# Altium integrated library QuickLogic pASIC 2.IntLib: 96 symbols (part 1 of 7)
Pins are listed as number, name and electrical type; pins without a type are passive.

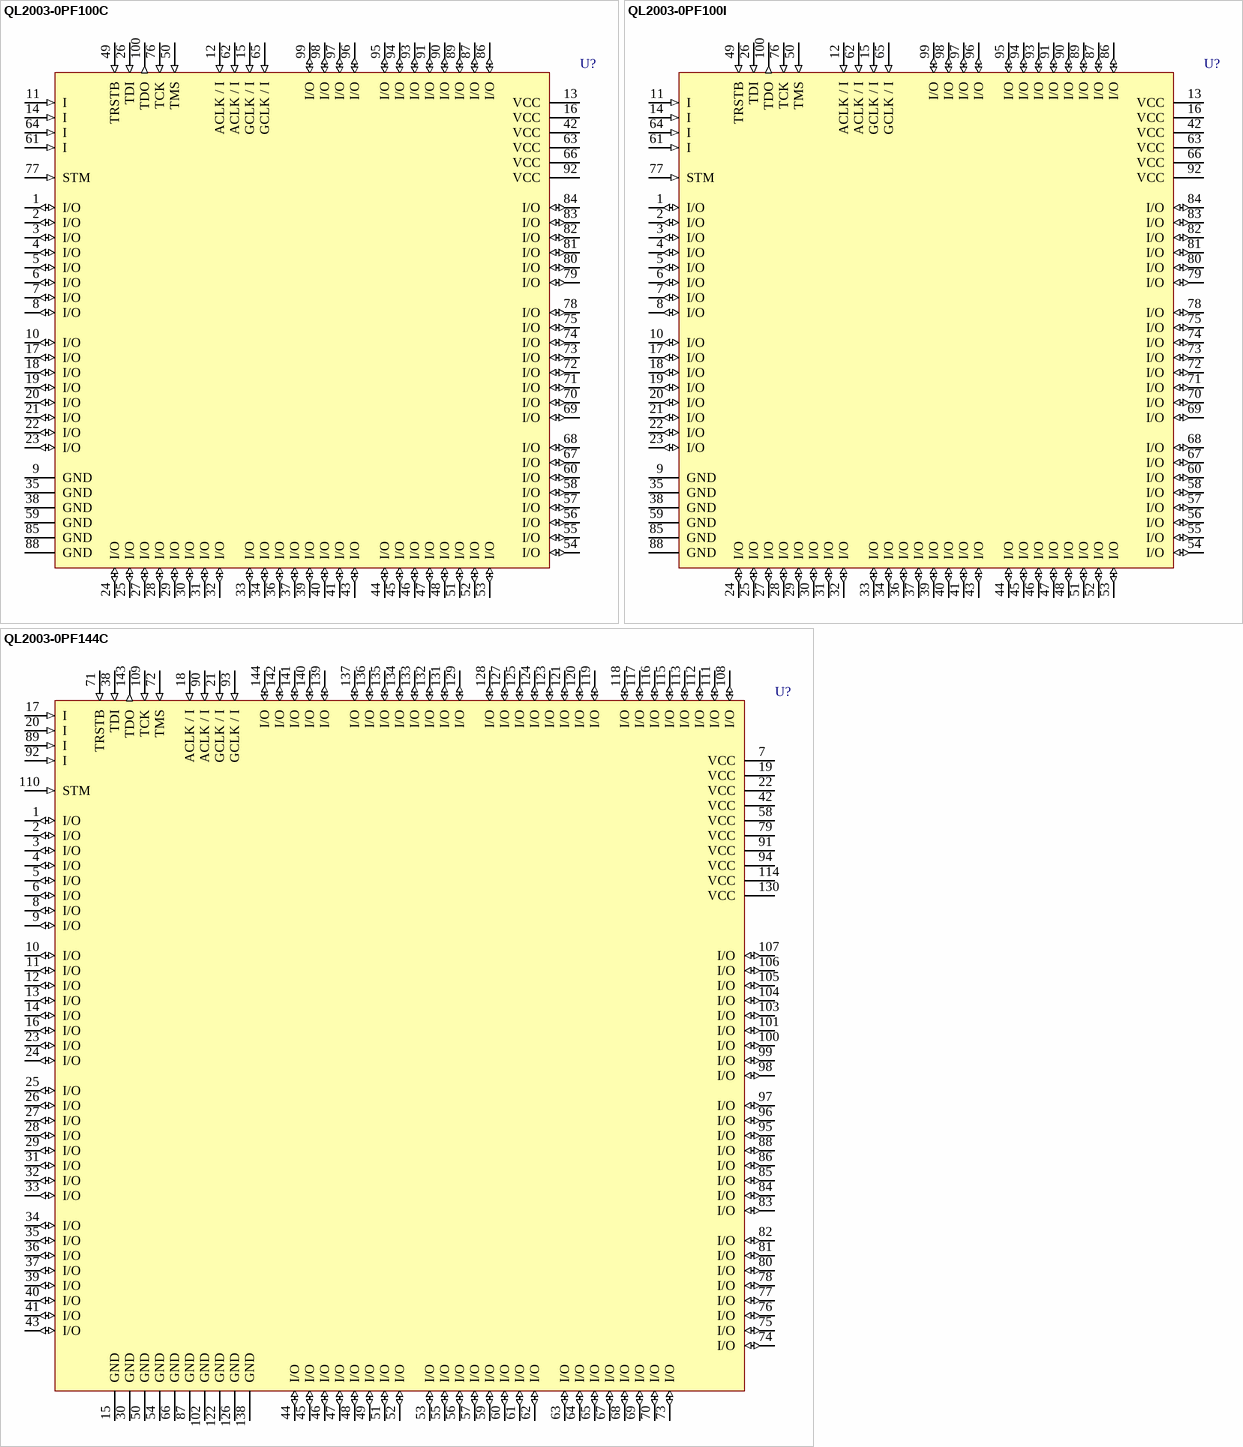
[diagram p0: symbols QL2003-0PF100C to QL2003-0PF144C]

## QL2003-0PF100C
designator U?
3.3V and 5.0V FPGA, 82 I/Os Max; Published: 21-May-2003; LatestRevisionDate: 13-Apr-2006; LatestRevisionNote: IPC-7351 Footprint Added.; DatasheetVersion: Rev. C; PackageVersion: Feb-2000; PackageReference: PF100; Publisher: Altium Limited; PackageDescription: 100-Pin Thin Quad Flat Pack 0.5 mm Pitch; Code_JEDEC: MO-136; ComponentLink1Description: Manufacturer Link; ComponentLink1URL: http://www.quicklogic.com/; ComponentLink2Description: Datasheet; ComponentLink2URL: http://www.quicklogic.com/images/QL2003_DS.pdf; ComponentLink3Description: Discontinuation Notice; ComponentLink3URL: http://www.quicklogic.com/images/EOL_Letter_General.pdf
footprint PF100_N (Thin QFP, 100-Leads, Body 14x14mm, Pitch 0.5mm, IPC Medium Density)
footprint PF100_L (Thin QFP, 100-Leads, Body 14x14mm, Pitch 0.5mm, IPC High Density)
footprint PF100_M (Thin QFP, 100-Leads, Body 14x14mm, Pitch 0.5mm, IPC Low Density)
3D model QL2003-PF100 (100-Pin Thin Quad Flat Pack 0.5 mm Pitch)
pins: 1 I/O (io), 2 I/O (io), 3 I/O (io), 4 I/O (io), 5 I/O (io), 6 I/O (io), 7 I/O (io), 8 I/O (io), 9 GND (power), 10 I/O (io), 11 I (in), 12 ACLK / I (in), 13 VCC (power), 14 I (in), 15 GCLK / I (in), 16 VCC (power), 17 I/O (io), 18 I/O (io), 19 I/O (io), 20 I/O (io), 21 I/O (io), 22 I/O (io), 23 I/O (io), 24 I/O (io), 25 I/O (io), 26 TDI (in), 27 I/O (io), 28 I/O (io), 29 I/O (io), 30 I/O (io), 31 I/O (io), 32 I/O (io), 33 I/O (io), 34 I/O (io), 35 GND (power), 36 I/O (io), 37 I/O (io), 38 GND (power), 39 I/O (io), 40 I/O (io), 41 I/O (io), 42 VCC (power), 43 I/O (io), 44 I/O (io), 45 I/O (io), 46 I/O (io), 47 I/O (io), 48 I/O (io), 49 TRSTB (in), 50 TMS (in), 51 I/O (io), 52 I/O (io), 53 I/O (io), 54 I/O (io), 55 I/O (io), 56 I/O (io), 57 I/O (io), 58 I/O (io), 59 GND (power), 60 I/O (io), 61 I (in), 62 ACLK / I (in), 63 VCC (power), 64 I (in), 65 GCLK / I (in), 66 VCC (power), 67 I/O (io), 68 I/O (io), 69 I/O (io), 70 I/O (io), 71 I/O (io), 72 I/O (io), 73 I/O (io), 74 I/O (io), 75 I/O (io), 76 TCK (in), 77 STM (in), 78 I/O (io), 79 I/O (io), 80 I/O (io), 81 I/O (io), 82 I/O (io), 83 I/O (io), 84 I/O (io), 85 GND (power), 86 I/O (io), 87 I/O (io), 88 GND (power), 89 I/O (io), 90 I/O (io), 91 I/O (io), 92 VCC (power), 93 I/O (io), 94 I/O (io), 95 I/O (io), 96 I/O (io), 97 I/O (io), 98 I/O (io), 99 I/O (io), 100 TDO (out)

## QL2003-0PF100I
designator U?
3.3V and 5.0V FPGA, 82 I/Os Max; Published: 21-May-2003; LatestRevisionDate: 13-Apr-2006; LatestRevisionNote: IPC-7351 Footprint Added.; DatasheetVersion: Rev. C; PackageVersion: Feb-2000; PackageReference: PF100; Publisher: Altium Limited; PackageDescription: 100-Pin Thin Quad Flat Pack 0.5 mm Pitch; Code_JEDEC: MO-136; ComponentLink1Description: Manufacturer Link; ComponentLink1URL: http://www.quicklogic.com/; ComponentLink2Description: Datasheet; ComponentLink2URL: http://www.quicklogic.com/images/QL2003_DS.pdf; ComponentLink3Description: Discontinuation Notice; ComponentLink3URL: http://www.quicklogic.com/images/EOL_Letter_General.pdf
footprint PF100_N (Thin QFP, 100-Leads, Body 14x14mm, Pitch 0.5mm, IPC Medium Density)
footprint PF100_L (Thin QFP, 100-Leads, Body 14x14mm, Pitch 0.5mm, IPC High Density)
footprint PF100_M (Thin QFP, 100-Leads, Body 14x14mm, Pitch 0.5mm, IPC Low Density)
3D model QL2003-PF100 (100-Pin Thin Quad Flat Pack 0.5 mm Pitch)
pins: 1 I/O (io), 2 I/O (io), 3 I/O (io), 4 I/O (io), 5 I/O (io), 6 I/O (io), 7 I/O (io), 8 I/O (io), 9 GND (power), 10 I/O (io), 11 I (in), 12 ACLK / I (in), 13 VCC (power), 14 I (in), 15 GCLK / I (in), 16 VCC (power), 17 I/O (io), 18 I/O (io), 19 I/O (io), 20 I/O (io), 21 I/O (io), 22 I/O (io), 23 I/O (io), 24 I/O (io), 25 I/O (io), 26 TDI (in), 27 I/O (io), 28 I/O (io), 29 I/O (io), 30 I/O (io), 31 I/O (io), 32 I/O (io), 33 I/O (io), 34 I/O (io), 35 GND (power), 36 I/O (io), 37 I/O (io), 38 GND (power), 39 I/O (io), 40 I/O (io), 41 I/O (io), 42 VCC (power), 43 I/O (io), 44 I/O (io), 45 I/O (io), 46 I/O (io), 47 I/O (io), 48 I/O (io), 49 TRSTB (in), 50 TMS (in), 51 I/O (io), 52 I/O (io), 53 I/O (io), 54 I/O (io), 55 I/O (io), 56 I/O (io), 57 I/O (io), 58 I/O (io), 59 GND (power), 60 I/O (io), 61 I (in), 62 ACLK / I (in), 63 VCC (power), 64 I (in), 65 GCLK / I (in), 66 VCC (power), 67 I/O (io), 68 I/O (io), 69 I/O (io), 70 I/O (io), 71 I/O (io), 72 I/O (io), 73 I/O (io), 74 I/O (io), 75 I/O (io), 76 TCK (in), 77 STM (in), 78 I/O (io), 79 I/O (io), 80 I/O (io), 81 I/O (io), 82 I/O (io), 83 I/O (io), 84 I/O (io), 85 GND (power), 86 I/O (io), 87 I/O (io), 88 GND (power), 89 I/O (io), 90 I/O (io), 91 I/O (io), 92 VCC (power), 93 I/O (io), 94 I/O (io), 95 I/O (io), 96 I/O (io), 97 I/O (io), 98 I/O (io), 99 I/O (io), 100 TDO (out)

## QL2003-0PF144C
designator U?
3.3V and 5.0V FPGA, 118 I/Os Max; Published: 21-May-2003; LatestRevisionDate: 13-Apr-2006; LatestRevisionNote: IPC-7351 Footprint Added.; DatasheetVersion: Rev. C; PackageVersion: Feb-1992; PackageReference: PF144; Publisher: Altium Limited; PackageDescription: 144-Pin Thin Plastic Quad Flat Pack 0.5 mm Pitch; ComponentLink1Description: Manufacturer Link; ComponentLink1URL: http://www.quicklogic.com/; ComponentLink2Description: Datasheet; ComponentLink2URL: http://www.quicklogic.com/images/QL2003_DS.pdf; ComponentLink3Description: Discontinuation Notice; ComponentLink3URL: http://www.quicklogic.com/images/EOL_Letter_General.pdf
footprint PF144_N (Thin QFP, 144-Leads, Body 20x20mm, Pitch 0.5mm, IPC Medium Density)
footprint PF144_L (Thin QFP, 144-Leads, Body 20x20mm, Pitch 0.5mm, IPC High Density)
footprint PF144_M (Thin QFP, 144-Leads, Body 20x20mm, Pitch 0.5mm, IPC Low Density)
3D model QL2003-PF144 (144-Pin Thin Plastic Quad Flat Pack 0.5 mm Pitch)
pins: 1 I/O (io), 2 I/O (io), 3 I/O (io), 4 I/O (io), 5 I/O (io), 6 I/O (io), 7 VCC (power), 8 I/O (io), 9 I/O (io), 10 I/O (io), 11 I/O (io), 12 I/O (io), 13 I/O (io), 14 I/O (io), 15 GND (power), 16 I/O (io), 17 I (in), 18 ACLK / I (in), 19 VCC (power), 20 I (in), 21 GCLK / I (in), 22 VCC (power), 23 I/O (io), 24 I/O (io), 25 I/O (io), 26 I/O (io), 27 I/O (io), 28 I/O (io), 29 I/O (io), 30 GND (power), 31 I/O (io), 32 I/O (io), 33 I/O (io), 34 I/O (io), 35 I/O (io), 36 I/O (io), 37 I/O (io), 38 TDI (in), 39 I/O (io), 40 I/O (io), 41 I/O (io), 42 VCC (power), 43 I/O (io), 44 I/O (io), 45 I/O (io), 46 I/O (io), 47 I/O (io), 48 I/O (io), 49 I/O (io), 50 GND (power), 51 I/O (io), 52 I/O (io), 53 I/O (io), 54 GND (power), 55 I/O (io), 56 I/O (io), 57 I/O (io), 58 VCC (power), 59 I/O (io), 60 I/O (io), 61 I/O (io), 62 I/O (io), 63 I/O (io), 64 I/O (io), 65 I/O (io), 66 GND (power), 67 I/O (io), 68 I/O (io), 69 I/O (io), 70 I/O (io), 71 TRSTB (in), 72 TMS (in), 73 I/O (io), 74 I/O (io), 75 I/O (io), 76 I/O (io), 77 I/O (io), 78 I/O (io), 79 VCC (power), 80 I/O (io), 81 I/O (io), 82 I/O (io), 83 I/O (io), 84 I/O (io), 85 I/O (io), 86 I/O (io), 87 GND (power), 88 I/O (io), 89 I (in), 90 ACLK / I (in), 91 VCC (power), 92 I (in), 93 GCLK / I (in), 94 VCC (power), 95 I/O (io), 96 I/O (io), 97 I/O (io), 98 I/O (io), 99 I/O (io), 100 I/O (io), 101 I/O (io), 102 GND (power), 103 I/O (io), 104 I/O (io), 105 I/O (io), 106 I/O (io), 107 I/O (io), 108 I/O (io), 109 TCK (in), 110 STM (in), 111 I/O (io), 112 I/O (io), 113 I/O (io), 114 VCC (power), 115 I/O (io), 116 I/O (io), 117 I/O (io), 118 I/O (io), 119 I/O (io), 120 I/O (io), 121 I/O (io), 122 GND (power), 123 I/O (io), 124 I/O (io), 125 I/O (io), 126 GND (power), 127 I/O (io), 128 I/O (io), 129 I/O (io), 130 VCC (power), 131 I/O (io), 132 I/O (io), 133 I/O (io), 134 I/O (io), 135 I/O (io), 136 I/O (io), 137 I/O (io), 138 GND (power), 139 I/O (io), 140 I/O (io), 141 I/O (io), 142 I/O (io), 143 TDO (out), 144 I/O (io)

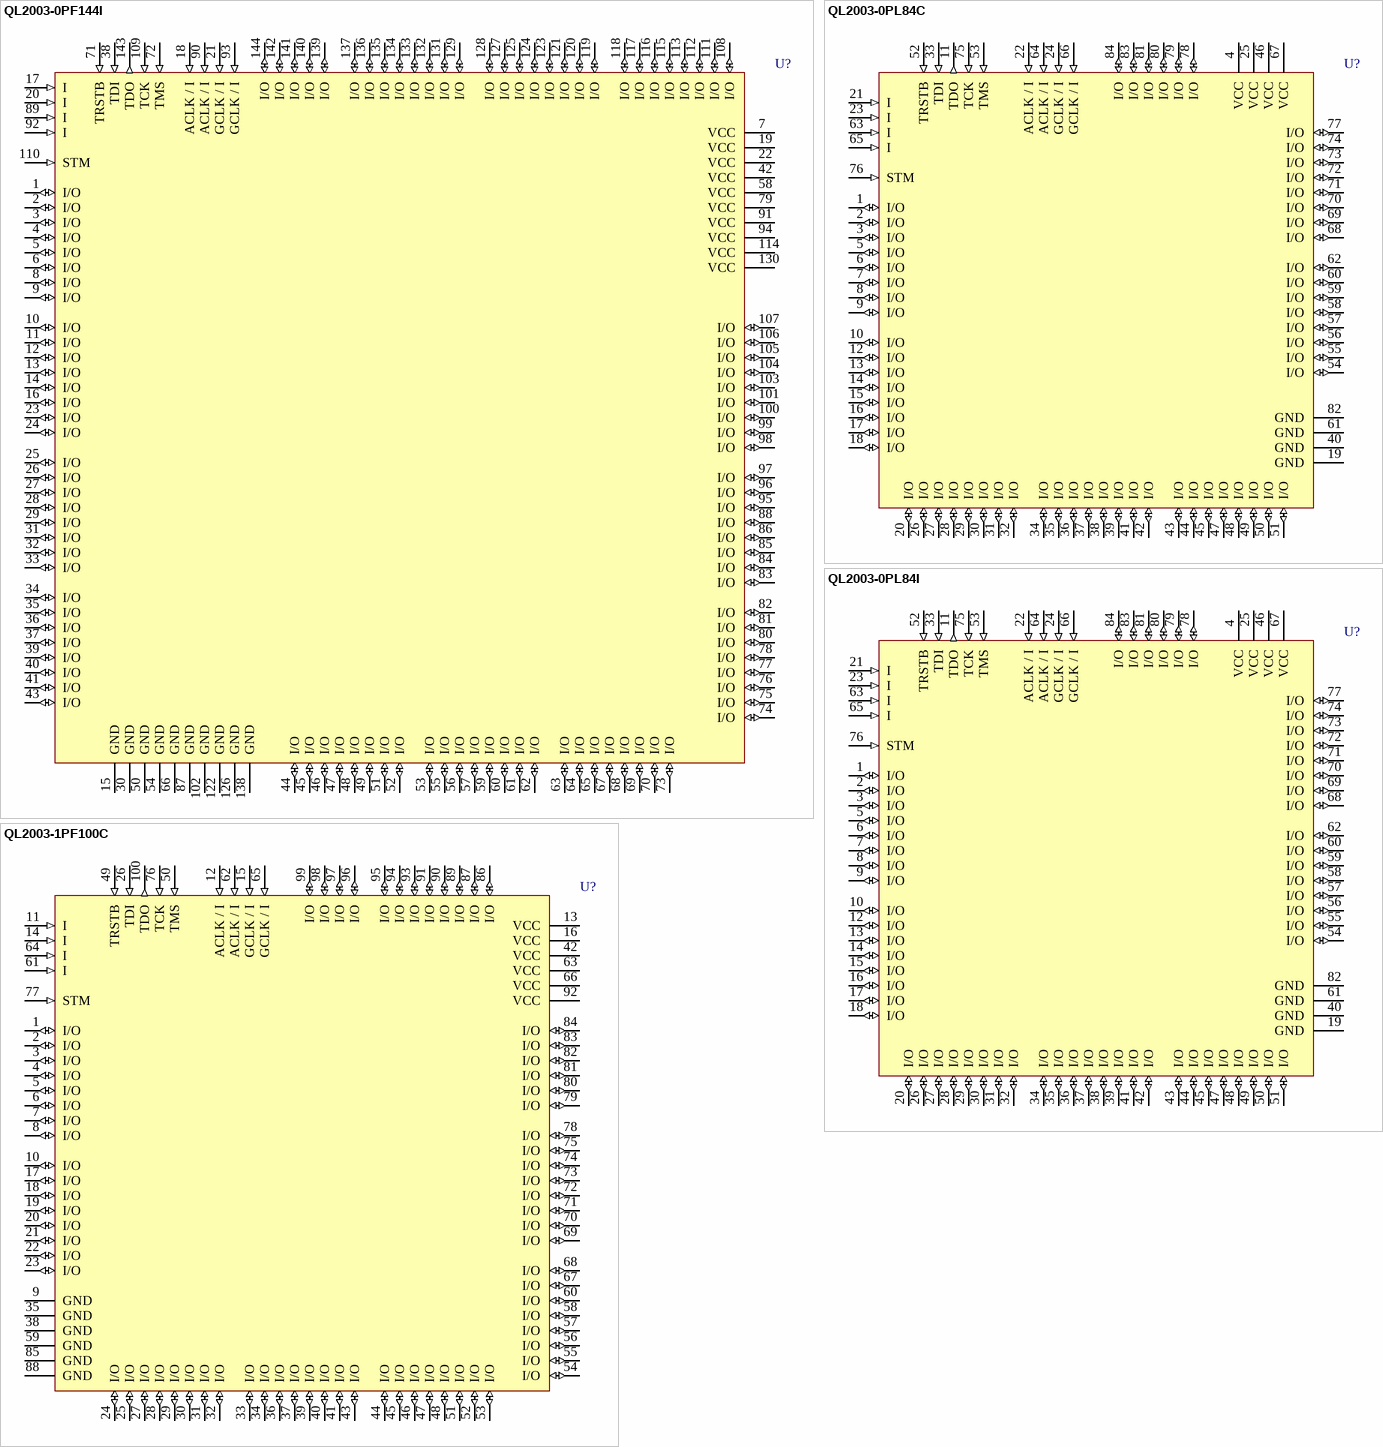
[diagram p1: symbols QL2003-0PF144I to QL2003-1PF100C]

## QL2003-0PF144I
designator U?
3.3V and 5.0V FPGA, 118 I/Os Max; Published: 21-May-2003; LatestRevisionDate: 13-Apr-2006; LatestRevisionNote: IPC-7351 Footprint Added.; DatasheetVersion: Rev. C; PackageVersion: Feb-1992; PackageReference: PF144; Publisher: Altium Limited; PackageDescription: 144-Pin Thin Plastic Quad Flat Pack 0.5 mm Pitch; ComponentLink1Description: Manufacturer Link; ComponentLink1URL: http://www.quicklogic.com/; ComponentLink2Description: Datasheet; ComponentLink2URL: http://www.quicklogic.com/images/QL2003_DS.pdf; ComponentLink3Description: Discontinuation Notice; ComponentLink3URL: http://www.quicklogic.com/images/EOL_Letter_General.pdf
footprint PF144_N (Thin QFP, 144-Leads, Body 20x20mm, Pitch 0.5mm, IPC Medium Density)
footprint PF144_L (Thin QFP, 144-Leads, Body 20x20mm, Pitch 0.5mm, IPC High Density)
footprint PF144_M (Thin QFP, 144-Leads, Body 20x20mm, Pitch 0.5mm, IPC Low Density)
3D model QL2003-PF144 (144-Pin Thin Plastic Quad Flat Pack 0.5 mm Pitch)
pins: 1 I/O (io), 2 I/O (io), 3 I/O (io), 4 I/O (io), 5 I/O (io), 6 I/O (io), 7 VCC (power), 8 I/O (io), 9 I/O (io), 10 I/O (io), 11 I/O (io), 12 I/O (io), 13 I/O (io), 14 I/O (io), 15 GND (power), 16 I/O (io), 17 I (in), 18 ACLK / I (in), 19 VCC (power), 20 I (in), 21 GCLK / I (in), 22 VCC (power), 23 I/O (io), 24 I/O (io), 25 I/O (io), 26 I/O (io), 27 I/O (io), 28 I/O (io), 29 I/O (io), 30 GND (power), 31 I/O (io), 32 I/O (io), 33 I/O (io), 34 I/O (io), 35 I/O (io), 36 I/O (io), 37 I/O (io), 38 TDI (in), 39 I/O (io), 40 I/O (io), 41 I/O (io), 42 VCC (power), 43 I/O (io), 44 I/O (io), 45 I/O (io), 46 I/O (io), 47 I/O (io), 48 I/O (io), 49 I/O (io), 50 GND (power), 51 I/O (io), 52 I/O (io), 53 I/O (io), 54 GND (power), 55 I/O (io), 56 I/O (io), 57 I/O (io), 58 VCC (power), 59 I/O (io), 60 I/O (io), 61 I/O (io), 62 I/O (io), 63 I/O (io), 64 I/O (io), 65 I/O (io), 66 GND (power), 67 I/O (io), 68 I/O (io), 69 I/O (io), 70 I/O (io), 71 TRSTB (in), 72 TMS (in), 73 I/O (io), 74 I/O (io), 75 I/O (io), 76 I/O (io), 77 I/O (io), 78 I/O (io), 79 VCC (power), 80 I/O (io), 81 I/O (io), 82 I/O (io), 83 I/O (io), 84 I/O (io), 85 I/O (io), 86 I/O (io), 87 GND (power), 88 I/O (io), 89 I (in), 90 ACLK / I (in), 91 VCC (power), 92 I (in), 93 GCLK / I (in), 94 VCC (power), 95 I/O (io), 96 I/O (io), 97 I/O (io), 98 I/O (io), 99 I/O (io), 100 I/O (io), 101 I/O (io), 102 GND (power), 103 I/O (io), 104 I/O (io), 105 I/O (io), 106 I/O (io), 107 I/O (io), 108 I/O (io), 109 TCK (in), 110 STM (in), 111 I/O (io), 112 I/O (io), 113 I/O (io), 114 VCC (power), 115 I/O (io), 116 I/O (io), 117 I/O (io), 118 I/O (io), 119 I/O (io), 120 I/O (io), 121 I/O (io), 122 GND (power), 123 I/O (io), 124 I/O (io), 125 I/O (io), 126 GND (power), 127 I/O (io), 128 I/O (io), 129 I/O (io), 130 VCC (power), 131 I/O (io), 132 I/O (io), 133 I/O (io), 134 I/O (io), 135 I/O (io), 136 I/O (io), 137 I/O (io), 138 GND (power), 139 I/O (io), 140 I/O (io), 141 I/O (io), 142 I/O (io), 143 TDO (out), 144 I/O (io)

## QL2003-0PL84C
designator U?
3.3V and 5.0V FPGA, 70 I/Os Max; Published: 21-May-2003; LatestRevisionDate: 13-Apr-2006; LatestRevisionNote: IPC-7351 Footprint Added.; DatasheetVersion: Rev. C; PackageVersion: Feb-1996; PackageReference: PL84; Publisher: Altium Limited; PackageDescription: 84-Pin Plastic Leaded Chip Carrier 1.27 mm Pitch; Code_IPC: PLCC-84; ComponentLink1Description: Manufacturer Link; ComponentLink1URL: http://www.quicklogic.com/; ComponentLink2Description: Datasheet; ComponentLink2URL: http://www.quicklogic.com/images/QL2003_DS.pdf; ComponentLink3Description: Discontinuation Notice; ComponentLink3URL: http://www.quicklogic.com/images/EOL_Letter_General.pdf
footprint PL84_N (Leaded Chip Carrier, 84-Leads, Body 29.3x29.3mm, Pitch 1.27mm, IPC Medium Density)
footprint PL84_L (Leaded Chip Carrier, 84-Leads, Body 29.3x29.3mm, Pitch 1.27mm, IPC High Density)
footprint PL84_M (Leaded Chip Carrier, 84-Leads, Body 29.3x29.3mm, Pitch 1.27mm, IPC Low Density)
3D model QL2003-QCC-J84 (84-Pin Plastic Leaded Chip Carrier 1.27 mm Pitch)
pins: 1 I/O (io), 2 I/O (io), 3 I/O (io), 4 VCC (power), 5 I/O (io), 6 I/O (io), 7 I/O (io), 8 I/O (io), 9 I/O (io), 10 I/O (io), 11 TDO (out), 12 I/O (io), 13 I/O (io), 14 I/O (io), 15 I/O (io), 16 I/O (io), 17 I/O (io), 18 I/O (io), 19 GND (power), 20 I/O (io), 21 I (in), 22 ACLK / I (in), 23 I (in), 24 GCLK / I (in), 25 VCC (power), 26 I/O (io), 27 I/O (io), 28 I/O (io), 29 I/O (io), 30 I/O (io), 31 I/O (io), 32 I/O (io), 33 TDI (in), 34 I/O (io), 35 I/O (io), 36 I/O (io), 37 I/O (io), 38 I/O (io), 39 I/O (io), 40 GND (power), 41 I/O (io), 42 I/O (io), 43 I/O (io), 44 I/O (io), 45 I/O (io), 46 VCC (power), 47 I/O (io), 48 I/O (io), 49 I/O (io), 50 I/O (io), 51 I/O (io), 52 TRSTB (in), 53 TMS (in), 54 I/O (io), 55 I/O (io), 56 I/O (io), 57 I/O (io), 58 I/O (io), 59 I/O (io), 60 I/O (io), 61 GND (power), 62 I/O (io), 63 I (in), 64 ACLK / I (in), 65 I (in), 66 GCLK / I (in), 67 VCC (power), 68 I/O (io), 69 I/O (io), 70 I/O (io), 71 I/O (io), 72 I/O (io), 73 I/O (io), 74 I/O (io), 75 TCK (in), 76 STM (in), 77 I/O (io), 78 I/O (io), 79 I/O (io), 80 I/O (io), 81 I/O (io), 82 GND (power), 83 I/O (io), 84 I/O (io)

## QL2003-0PL84I
designator U?
3.3V and 5.0V FPGA, 70 I/Os Max; Published: 21-May-2003; LatestRevisionDate: 13-Apr-2006; LatestRevisionNote: IPC-7351 Footprint Added.; DatasheetVersion: Rev. C; PackageVersion: Feb-1996; PackageReference: PL84; Publisher: Altium Limited; PackageDescription: 84-Pin Plastic Leaded Chip Carrier 1.27 mm Pitch; Code_IPC: PLCC-84; ComponentLink1Description: Manufacturer Link; ComponentLink1URL: http://www.quicklogic.com/; ComponentLink2Description: Datasheet; ComponentLink2URL: http://www.quicklogic.com/images/QL2003_DS.pdf; ComponentLink3Description: Discontinuation Notice; ComponentLink3URL: http://www.quicklogic.com/images/EOL_Letter_General.pdf
footprint PL84_N (Leaded Chip Carrier, 84-Leads, Body 29.3x29.3mm, Pitch 1.27mm, IPC Medium Density)
footprint PL84_L (Leaded Chip Carrier, 84-Leads, Body 29.3x29.3mm, Pitch 1.27mm, IPC High Density)
footprint PL84_M (Leaded Chip Carrier, 84-Leads, Body 29.3x29.3mm, Pitch 1.27mm, IPC Low Density)
3D model QL2003-QCC-J84 (84-Pin Plastic Leaded Chip Carrier 1.27 mm Pitch)
pins: 1 I/O (io), 2 I/O (io), 3 I/O (io), 4 VCC (power), 5 I/O (io), 6 I/O (io), 7 I/O (io), 8 I/O (io), 9 I/O (io), 10 I/O (io), 11 TDO (out), 12 I/O (io), 13 I/O (io), 14 I/O (io), 15 I/O (io), 16 I/O (io), 17 I/O (io), 18 I/O (io), 19 GND (power), 20 I/O (io), 21 I (in), 22 ACLK / I (in), 23 I (in), 24 GCLK / I (in), 25 VCC (power), 26 I/O (io), 27 I/O (io), 28 I/O (io), 29 I/O (io), 30 I/O (io), 31 I/O (io), 32 I/O (io), 33 TDI (in), 34 I/O (io), 35 I/O (io), 36 I/O (io), 37 I/O (io), 38 I/O (io), 39 I/O (io), 40 GND (power), 41 I/O (io), 42 I/O (io), 43 I/O (io), 44 I/O (io), 45 I/O (io), 46 VCC (power), 47 I/O (io), 48 I/O (io), 49 I/O (io), 50 I/O (io), 51 I/O (io), 52 TRSTB (in), 53 TMS (in), 54 I/O (io), 55 I/O (io), 56 I/O (io), 57 I/O (io), 58 I/O (io), 59 I/O (io), 60 I/O (io), 61 GND (power), 62 I/O (io), 63 I (in), 64 ACLK / I (in), 65 I (in), 66 GCLK / I (in), 67 VCC (power), 68 I/O (io), 69 I/O (io), 70 I/O (io), 71 I/O (io), 72 I/O (io), 73 I/O (io), 74 I/O (io), 75 TCK (in), 76 STM (in), 77 I/O (io), 78 I/O (io), 79 I/O (io), 80 I/O (io), 81 I/O (io), 82 GND (power), 83 I/O (io), 84 I/O (io)

## QL2003-1PF100C
designator U?
3.3V and 5.0V FPGA, 82 I/Os Max; Published: 21-May-2003; LatestRevisionDate: 13-Apr-2006; LatestRevisionNote: IPC-7351 Footprint Added.; DatasheetVersion: Rev. C; PackageVersion: Feb-2000; PackageReference: PF100; Publisher: Altium Limited; PackageDescription: 100-Pin Thin Quad Flat Pack 0.5 mm Pitch; Code_JEDEC: MO-136; ComponentLink1Description: Manufacturer Link; ComponentLink1URL: http://www.quicklogic.com/; ComponentLink2Description: Datasheet; ComponentLink2URL: http://www.quicklogic.com/images/QL2003_DS.pdf; ComponentLink3Description: Discontinuation Notice; ComponentLink3URL: http://www.quicklogic.com/images/EOL_Letter_General.pdf
footprint PF100_N (Thin QFP, 100-Leads, Body 14x14mm, Pitch 0.5mm, IPC Medium Density)
footprint PF100_L (Thin QFP, 100-Leads, Body 14x14mm, Pitch 0.5mm, IPC High Density)
footprint PF100_M (Thin QFP, 100-Leads, Body 14x14mm, Pitch 0.5mm, IPC Low Density)
3D model QL2003-PF100 (100-Pin Thin Quad Flat Pack 0.5 mm Pitch)
pins: 1 I/O (io), 2 I/O (io), 3 I/O (io), 4 I/O (io), 5 I/O (io), 6 I/O (io), 7 I/O (io), 8 I/O (io), 9 GND (power), 10 I/O (io), 11 I (in), 12 ACLK / I (in), 13 VCC (power), 14 I (in), 15 GCLK / I (in), 16 VCC (power), 17 I/O (io), 18 I/O (io), 19 I/O (io), 20 I/O (io), 21 I/O (io), 22 I/O (io), 23 I/O (io), 24 I/O (io), 25 I/O (io), 26 TDI (in), 27 I/O (io), 28 I/O (io), 29 I/O (io), 30 I/O (io), 31 I/O (io), 32 I/O (io), 33 I/O (io), 34 I/O (io), 35 GND (power), 36 I/O (io), 37 I/O (io), 38 GND (power), 39 I/O (io), 40 I/O (io), 41 I/O (io), 42 VCC (power), 43 I/O (io), 44 I/O (io), 45 I/O (io), 46 I/O (io), 47 I/O (io), 48 I/O (io), 49 TRSTB (in), 50 TMS (in), 51 I/O (io), 52 I/O (io), 53 I/O (io), 54 I/O (io), 55 I/O (io), 56 I/O (io), 57 I/O (io), 58 I/O (io), 59 GND (power), 60 I/O (io), 61 I (in), 62 ACLK / I (in), 63 VCC (power), 64 I (in), 65 GCLK / I (in), 66 VCC (power), 67 I/O (io), 68 I/O (io), 69 I/O (io), 70 I/O (io), 71 I/O (io), 72 I/O (io), 73 I/O (io), 74 I/O (io), 75 I/O (io), 76 TCK (in), 77 STM (in), 78 I/O (io), 79 I/O (io), 80 I/O (io), 81 I/O (io), 82 I/O (io), 83 I/O (io), 84 I/O (io), 85 GND (power), 86 I/O (io), 87 I/O (io), 88 GND (power), 89 I/O (io), 90 I/O (io), 91 I/O (io), 92 VCC (power), 93 I/O (io), 94 I/O (io), 95 I/O (io), 96 I/O (io), 97 I/O (io), 98 I/O (io), 99 I/O (io), 100 TDO (out)

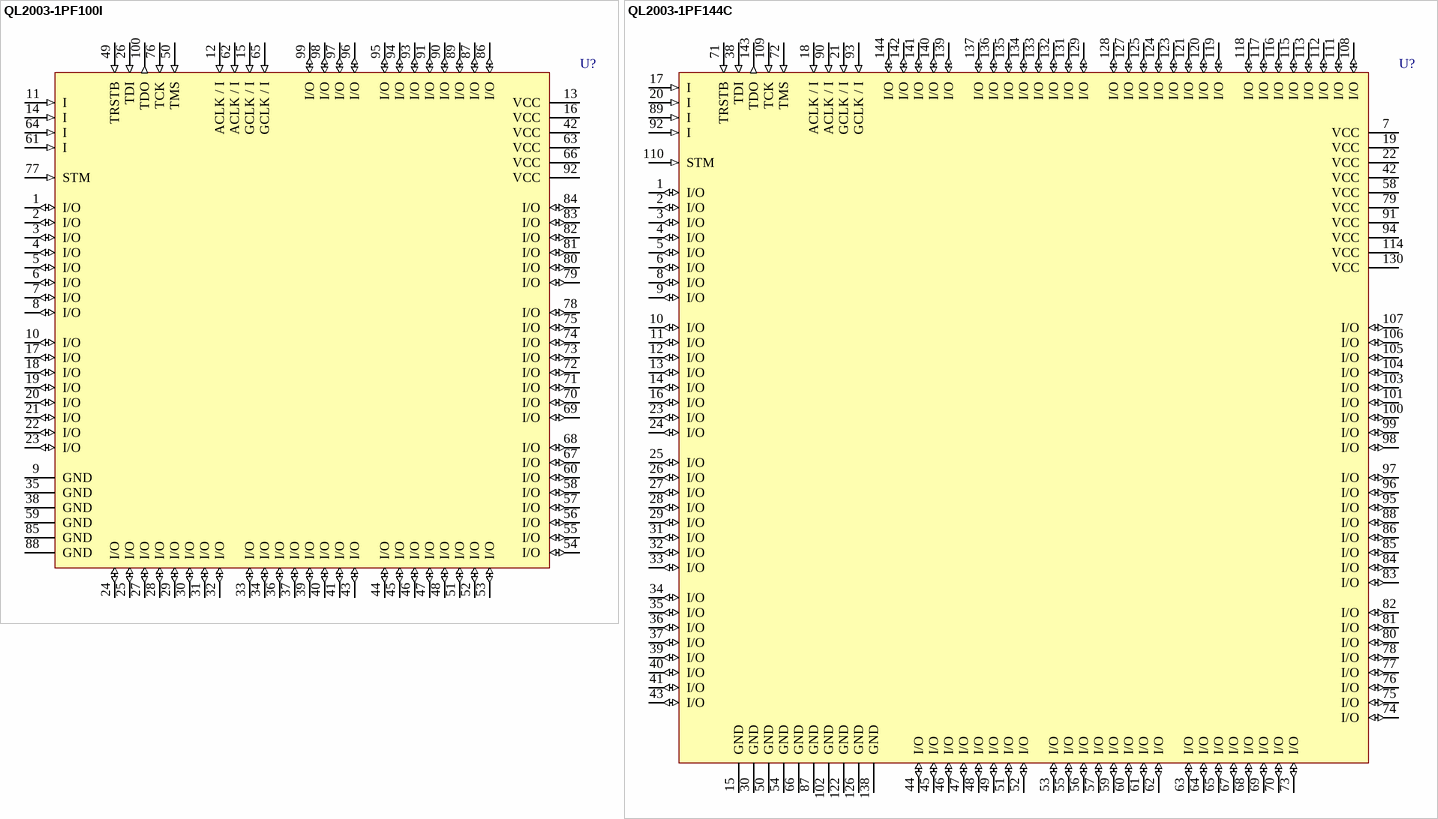
[diagram p2: symbols QL2003-1PF100I to QL2003-1PF144C]

## QL2003-1PF100I
designator U?
3.3V and 5.0V FPGA, 82 I/Os Max; Published: 21-May-2003; LatestRevisionDate: 13-Apr-2006; LatestRevisionNote: IPC-7351 Footprint Added.; DatasheetVersion: Rev. C; PackageVersion: Feb-2000; PackageReference: PF100; Publisher: Altium Limited; PackageDescription: 100-Pin Thin Quad Flat Pack 0.5 mm Pitch; Code_JEDEC: MO-136; ComponentLink1Description: Manufacturer Link; ComponentLink1URL: http://www.quicklogic.com/; ComponentLink2Description: Datasheet; ComponentLink2URL: http://www.quicklogic.com/images/QL2003_DS.pdf; ComponentLink3Description: Discontinuation Notice; ComponentLink3URL: http://www.quicklogic.com/images/EOL_Letter_General.pdf
footprint PF100_N (Thin QFP, 100-Leads, Body 14x14mm, Pitch 0.5mm, IPC Medium Density)
footprint PF100_L (Thin QFP, 100-Leads, Body 14x14mm, Pitch 0.5mm, IPC High Density)
footprint PF100_M (Thin QFP, 100-Leads, Body 14x14mm, Pitch 0.5mm, IPC Low Density)
3D model QL2003-PF100 (100-Pin Thin Quad Flat Pack 0.5 mm Pitch)
pins: 1 I/O (io), 2 I/O (io), 3 I/O (io), 4 I/O (io), 5 I/O (io), 6 I/O (io), 7 I/O (io), 8 I/O (io), 9 GND (power), 10 I/O (io), 11 I (in), 12 ACLK / I (in), 13 VCC (power), 14 I (in), 15 GCLK / I (in), 16 VCC (power), 17 I/O (io), 18 I/O (io), 19 I/O (io), 20 I/O (io), 21 I/O (io), 22 I/O (io), 23 I/O (io), 24 I/O (io), 25 I/O (io), 26 TDI (in), 27 I/O (io), 28 I/O (io), 29 I/O (io), 30 I/O (io), 31 I/O (io), 32 I/O (io), 33 I/O (io), 34 I/O (io), 35 GND (power), 36 I/O (io), 37 I/O (io), 38 GND (power), 39 I/O (io), 40 I/O (io), 41 I/O (io), 42 VCC (power), 43 I/O (io), 44 I/O (io), 45 I/O (io), 46 I/O (io), 47 I/O (io), 48 I/O (io), 49 TRSTB (in), 50 TMS (in), 51 I/O (io), 52 I/O (io), 53 I/O (io), 54 I/O (io), 55 I/O (io), 56 I/O (io), 57 I/O (io), 58 I/O (io), 59 GND (power), 60 I/O (io), 61 I (in), 62 ACLK / I (in), 63 VCC (power), 64 I (in), 65 GCLK / I (in), 66 VCC (power), 67 I/O (io), 68 I/O (io), 69 I/O (io), 70 I/O (io), 71 I/O (io), 72 I/O (io), 73 I/O (io), 74 I/O (io), 75 I/O (io), 76 TCK (in), 77 STM (in), 78 I/O (io), 79 I/O (io), 80 I/O (io), 81 I/O (io), 82 I/O (io), 83 I/O (io), 84 I/O (io), 85 GND (power), 86 I/O (io), 87 I/O (io), 88 GND (power), 89 I/O (io), 90 I/O (io), 91 I/O (io), 92 VCC (power), 93 I/O (io), 94 I/O (io), 95 I/O (io), 96 I/O (io), 97 I/O (io), 98 I/O (io), 99 I/O (io), 100 TDO (out)

## QL2003-1PF144C
designator U?
3.3V and 5.0V FPGA, 118 I/Os Max; Published: 21-May-2003; LatestRevisionDate: 13-Apr-2006; LatestRevisionNote: IPC-7351 Footprint Added.; DatasheetVersion: Rev. C; PackageVersion: Feb-1992; PackageReference: PF144; Publisher: Altium Limited; PackageDescription: 144-Pin Thin Plastic Quad Flat Pack 0.5 mm Pitch; ComponentLink1Description: Manufacturer Link; ComponentLink1URL: http://www.quicklogic.com/; ComponentLink2Description: Datasheet; ComponentLink2URL: http://www.quicklogic.com/images/QL2003_DS.pdf; ComponentLink3Description: Discontinuation Notice; ComponentLink3URL: http://www.quicklogic.com/images/EOL_Letter_General.pdf
footprint PF144_N (Thin QFP, 144-Leads, Body 20x20mm, Pitch 0.5mm, IPC Medium Density)
footprint PF144_L (Thin QFP, 144-Leads, Body 20x20mm, Pitch 0.5mm, IPC High Density)
footprint PF144_M (Thin QFP, 144-Leads, Body 20x20mm, Pitch 0.5mm, IPC Low Density)
3D model QL2003-PF144 (144-Pin Thin Plastic Quad Flat Pack 0.5 mm Pitch)
pins: 1 I/O (io), 2 I/O (io), 3 I/O (io), 4 I/O (io), 5 I/O (io), 6 I/O (io), 7 VCC (power), 8 I/O (io), 9 I/O (io), 10 I/O (io), 11 I/O (io), 12 I/O (io), 13 I/O (io), 14 I/O (io), 15 GND (power), 16 I/O (io), 17 I (in), 18 ACLK / I (in), 19 VCC (power), 20 I (in), 21 GCLK / I (in), 22 VCC (power), 23 I/O (io), 24 I/O (io), 25 I/O (io), 26 I/O (io), 27 I/O (io), 28 I/O (io), 29 I/O (io), 30 GND (power), 31 I/O (io), 32 I/O (io), 33 I/O (io), 34 I/O (io), 35 I/O (io), 36 I/O (io), 37 I/O (io), 38 TDI (in), 39 I/O (io), 40 I/O (io), 41 I/O (io), 42 VCC (power), 43 I/O (io), 44 I/O (io), 45 I/O (io), 46 I/O (io), 47 I/O (io), 48 I/O (io), 49 I/O (io), 50 GND (power), 51 I/O (io), 52 I/O (io), 53 I/O (io), 54 GND (power), 55 I/O (io), 56 I/O (io), 57 I/O (io), 58 VCC (power), 59 I/O (io), 60 I/O (io), 61 I/O (io), 62 I/O (io), 63 I/O (io), 64 I/O (io), 65 I/O (io), 66 GND (power), 67 I/O (io), 68 I/O (io), 69 I/O (io), 70 I/O (io), 71 TRSTB (in), 72 TMS (in), 73 I/O (io), 74 I/O (io), 75 I/O (io), 76 I/O (io), 77 I/O (io), 78 I/O (io), 79 VCC (power), 80 I/O (io), 81 I/O (io), 82 I/O (io), 83 I/O (io), 84 I/O (io), 85 I/O (io), 86 I/O (io), 87 GND (power), 88 I/O (io), 89 I (in), 90 ACLK / I (in), 91 VCC (power), 92 I (in), 93 GCLK / I (in), 94 VCC (power), 95 I/O (io), 96 I/O (io), 97 I/O (io), 98 I/O (io), 99 I/O (io), 100 I/O (io), 101 I/O (io), 102 GND (power), 103 I/O (io), 104 I/O (io), 105 I/O (io), 106 I/O (io), 107 I/O (io), 108 I/O (io), 109 TCK (in), 110 STM (in), 111 I/O (io), 112 I/O (io), 113 I/O (io), 114 VCC (power), 115 I/O (io), 116 I/O (io), 117 I/O (io), 118 I/O (io), 119 I/O (io), 120 I/O (io), 121 I/O (io), 122 GND (power), 123 I/O (io), 124 I/O (io), 125 I/O (io), 126 GND (power), 127 I/O (io), 128 I/O (io), 129 I/O (io), 130 VCC (power), 131 I/O (io), 132 I/O (io), 133 I/O (io), 134 I/O (io), 135 I/O (io), 136 I/O (io), 137 I/O (io), 138 GND (power), 139 I/O (io), 140 I/O (io), 141 I/O (io), 142 I/O (io), 143 TDO (out), 144 I/O (io)

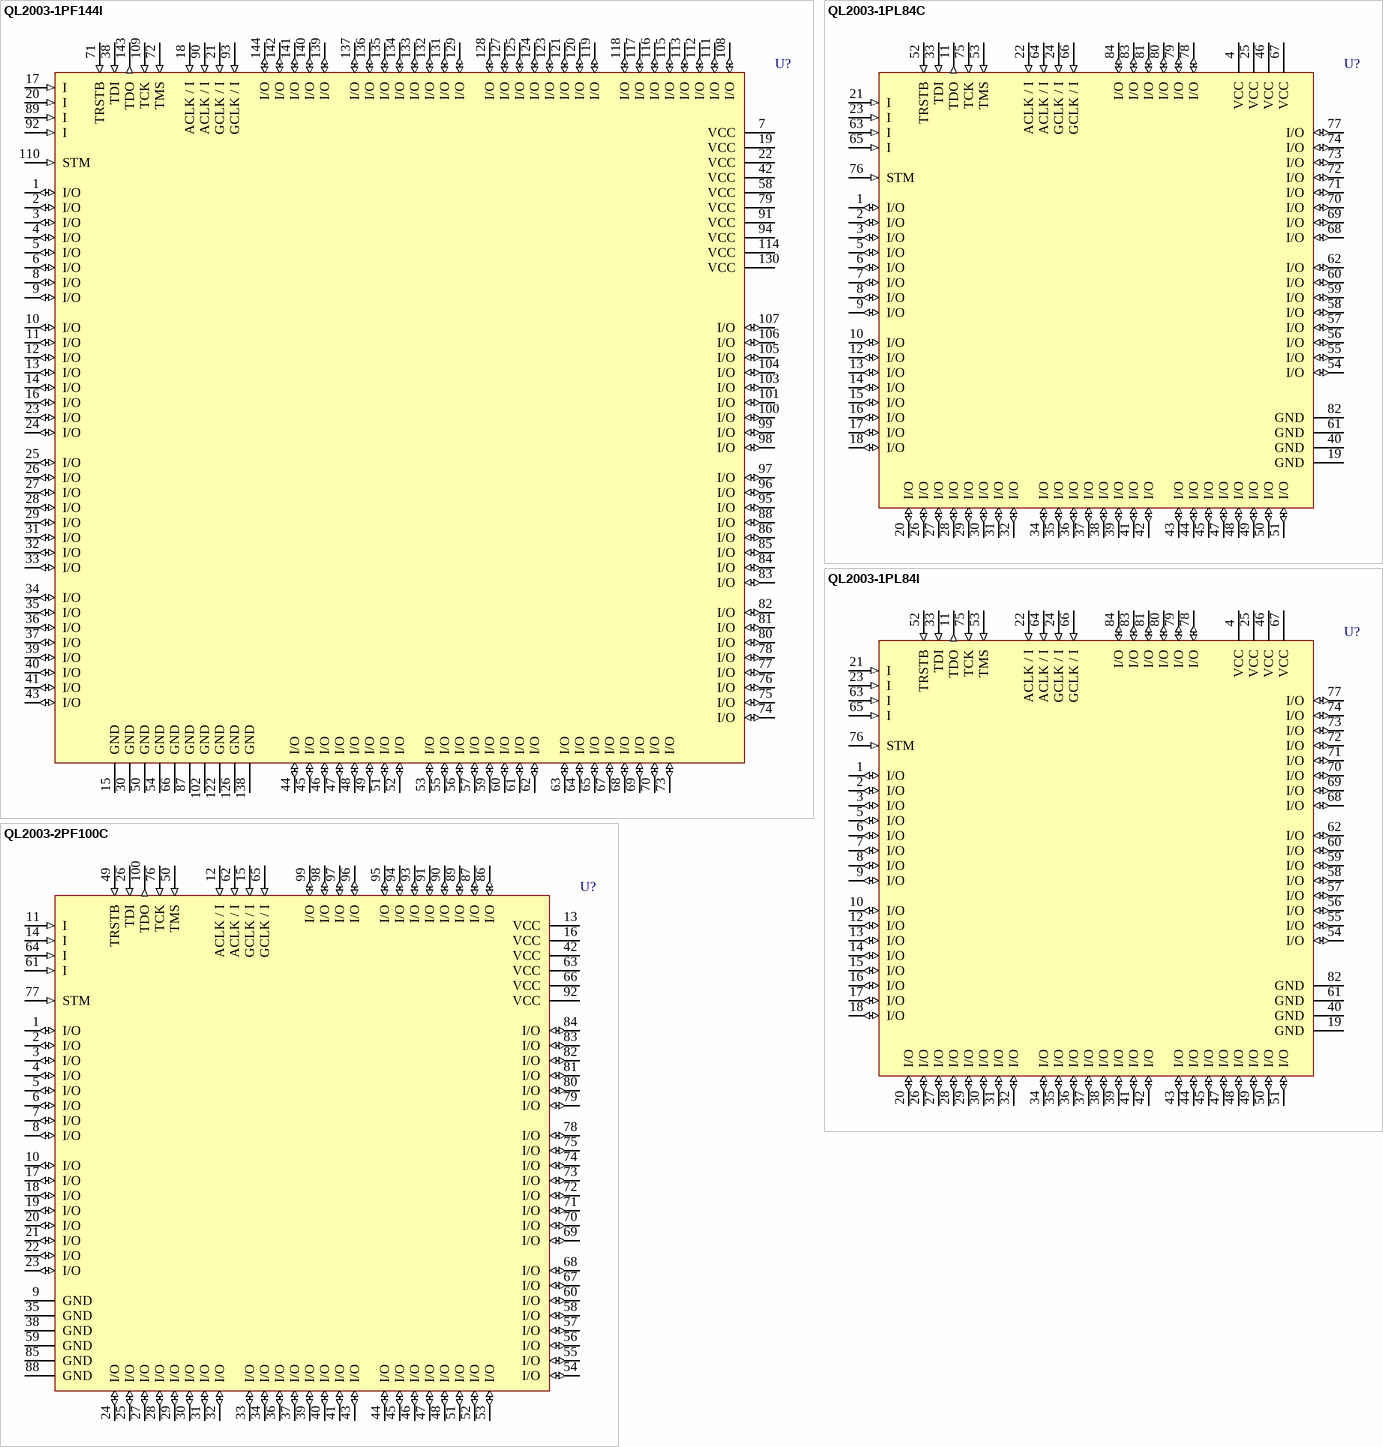
[diagram p3: symbols QL2003-1PF144I to QL2003-2PF100C]

## QL2003-1PF144I
designator U?
3.3V and 5.0V FPGA, 118 I/Os Max; Published: 21-May-2003; LatestRevisionDate: 13-Apr-2006; LatestRevisionNote: IPC-7351 Footprint Added.; DatasheetVersion: Rev. C; PackageVersion: Feb-1992; PackageReference: PF144; Publisher: Altium Limited; PackageDescription: 144-Pin Thin Plastic Quad Flat Pack 0.5 mm Pitch; ComponentLink1Description: Manufacturer Link; ComponentLink1URL: http://www.quicklogic.com/; ComponentLink2Description: Datasheet; ComponentLink2URL: http://www.quicklogic.com/images/QL2003_DS.pdf; ComponentLink3Description: Discontinuation Notice; ComponentLink3URL: http://www.quicklogic.com/images/EOL_Letter_General.pdf
footprint PF144_N (Thin QFP, 144-Leads, Body 20x20mm, Pitch 0.5mm, IPC Medium Density)
footprint PF144_L (Thin QFP, 144-Leads, Body 20x20mm, Pitch 0.5mm, IPC High Density)
footprint PF144_M (Thin QFP, 144-Leads, Body 20x20mm, Pitch 0.5mm, IPC Low Density)
3D model QL2003-PF144 (144-Pin Thin Plastic Quad Flat Pack 0.5 mm Pitch)
pins: 1 I/O (io), 2 I/O (io), 3 I/O (io), 4 I/O (io), 5 I/O (io), 6 I/O (io), 7 VCC (power), 8 I/O (io), 9 I/O (io), 10 I/O (io), 11 I/O (io), 12 I/O (io), 13 I/O (io), 14 I/O (io), 15 GND (power), 16 I/O (io), 17 I (in), 18 ACLK / I (in), 19 VCC (power), 20 I (in), 21 GCLK / I (in), 22 VCC (power), 23 I/O (io), 24 I/O (io), 25 I/O (io), 26 I/O (io), 27 I/O (io), 28 I/O (io), 29 I/O (io), 30 GND (power), 31 I/O (io), 32 I/O (io), 33 I/O (io), 34 I/O (io), 35 I/O (io), 36 I/O (io), 37 I/O (io), 38 TDI (in), 39 I/O (io), 40 I/O (io), 41 I/O (io), 42 VCC (power), 43 I/O (io), 44 I/O (io), 45 I/O (io), 46 I/O (io), 47 I/O (io), 48 I/O (io), 49 I/O (io), 50 GND (power), 51 I/O (io), 52 I/O (io), 53 I/O (io), 54 GND (power), 55 I/O (io), 56 I/O (io), 57 I/O (io), 58 VCC (power), 59 I/O (io), 60 I/O (io), 61 I/O (io), 62 I/O (io), 63 I/O (io), 64 I/O (io), 65 I/O (io), 66 GND (power), 67 I/O (io), 68 I/O (io), 69 I/O (io), 70 I/O (io), 71 TRSTB (in), 72 TMS (in), 73 I/O (io), 74 I/O (io), 75 I/O (io), 76 I/O (io), 77 I/O (io), 78 I/O (io), 79 VCC (power), 80 I/O (io), 81 I/O (io), 82 I/O (io), 83 I/O (io), 84 I/O (io), 85 I/O (io), 86 I/O (io), 87 GND (power), 88 I/O (io), 89 I (in), 90 ACLK / I (in), 91 VCC (power), 92 I (in), 93 GCLK / I (in), 94 VCC (power), 95 I/O (io), 96 I/O (io), 97 I/O (io), 98 I/O (io), 99 I/O (io), 100 I/O (io), 101 I/O (io), 102 GND (power), 103 I/O (io), 104 I/O (io), 105 I/O (io), 106 I/O (io), 107 I/O (io), 108 I/O (io), 109 TCK (in), 110 STM (in), 111 I/O (io), 112 I/O (io), 113 I/O (io), 114 VCC (power), 115 I/O (io), 116 I/O (io), 117 I/O (io), 118 I/O (io), 119 I/O (io), 120 I/O (io), 121 I/O (io), 122 GND (power), 123 I/O (io), 124 I/O (io), 125 I/O (io), 126 GND (power), 127 I/O (io), 128 I/O (io), 129 I/O (io), 130 VCC (power), 131 I/O (io), 132 I/O (io), 133 I/O (io), 134 I/O (io), 135 I/O (io), 136 I/O (io), 137 I/O (io), 138 GND (power), 139 I/O (io), 140 I/O (io), 141 I/O (io), 142 I/O (io), 143 TDO (out), 144 I/O (io)

## QL2003-1PL84C
designator U?
3.3V and 5.0V FPGA, 70 I/Os Max; Published: 21-May-2003; LatestRevisionDate: 13-Apr-2006; LatestRevisionNote: IPC-7351 Footprint Added.; DatasheetVersion: Rev. C; PackageVersion: Feb-1996; PackageReference: PL84; Publisher: Altium Limited; PackageDescription: 84-Pin Plastic Leaded Chip Carrier 1.27 mm Pitch; Code_IPC: PLCC-84; ComponentLink1Description: Manufacturer Link; ComponentLink1URL: http://www.quicklogic.com/; ComponentLink2Description: Datasheet; ComponentLink2URL: http://www.quicklogic.com/images/QL2003_DS.pdf; ComponentLink3Description: Discontinuation Notice; ComponentLink3URL: http://www.quicklogic.com/images/EOL_Letter_General.pdf
footprint PL84_N (Leaded Chip Carrier, 84-Leads, Body 29.3x29.3mm, Pitch 1.27mm, IPC Medium Density)
footprint PL84_L (Leaded Chip Carrier, 84-Leads, Body 29.3x29.3mm, Pitch 1.27mm, IPC High Density)
footprint PL84_M (Leaded Chip Carrier, 84-Leads, Body 29.3x29.3mm, Pitch 1.27mm, IPC Low Density)
3D model QL2003-QCC-J84 (84-Pin Plastic Leaded Chip Carrier 1.27 mm Pitch)
pins: 1 I/O (io), 2 I/O (io), 3 I/O (io), 4 VCC (power), 5 I/O (io), 6 I/O (io), 7 I/O (io), 8 I/O (io), 9 I/O (io), 10 I/O (io), 11 TDO (out), 12 I/O (io), 13 I/O (io), 14 I/O (io), 15 I/O (io), 16 I/O (io), 17 I/O (io), 18 I/O (io), 19 GND (power), 20 I/O (io), 21 I (in), 22 ACLK / I (in), 23 I (in), 24 GCLK / I (in), 25 VCC (power), 26 I/O (io), 27 I/O (io), 28 I/O (io), 29 I/O (io), 30 I/O (io), 31 I/O (io), 32 I/O (io), 33 TDI (in), 34 I/O (io), 35 I/O (io), 36 I/O (io), 37 I/O (io), 38 I/O (io), 39 I/O (io), 40 GND (power), 41 I/O (io), 42 I/O (io), 43 I/O (io), 44 I/O (io), 45 I/O (io), 46 VCC (power), 47 I/O (io), 48 I/O (io), 49 I/O (io), 50 I/O (io), 51 I/O (io), 52 TRSTB (in), 53 TMS (in), 54 I/O (io), 55 I/O (io), 56 I/O (io), 57 I/O (io), 58 I/O (io), 59 I/O (io), 60 I/O (io), 61 GND (power), 62 I/O (io), 63 I (in), 64 ACLK / I (in), 65 I (in), 66 GCLK / I (in), 67 VCC (power), 68 I/O (io), 69 I/O (io), 70 I/O (io), 71 I/O (io), 72 I/O (io), 73 I/O (io), 74 I/O (io), 75 TCK (in), 76 STM (in), 77 I/O (io), 78 I/O (io), 79 I/O (io), 80 I/O (io), 81 I/O (io), 82 GND (power), 83 I/O (io), 84 I/O (io)

## QL2003-1PL84I
designator U?
3.3V and 5.0V FPGA, 70 I/Os Max; Published: 21-May-2003; LatestRevisionDate: 13-Apr-2006; LatestRevisionNote: IPC-7351 Footprint Added.; DatasheetVersion: Rev. C; PackageVersion: Feb-1996; PackageReference: PL84; Publisher: Altium Limited; PackageDescription: 84-Pin Plastic Leaded Chip Carrier 1.27 mm Pitch; Code_IPC: PLCC-84; ComponentLink1Description: Manufacturer Link; ComponentLink1URL: http://www.quicklogic.com/; ComponentLink2Description: Datasheet; ComponentLink2URL: http://www.quicklogic.com/images/QL2003_DS.pdf; ComponentLink3Description: Discontinuation Notice; ComponentLink3URL: http://www.quicklogic.com/images/EOL_Letter_General.pdf
footprint PL84_N (Leaded Chip Carrier, 84-Leads, Body 29.3x29.3mm, Pitch 1.27mm, IPC Medium Density)
footprint PL84_L (Leaded Chip Carrier, 84-Leads, Body 29.3x29.3mm, Pitch 1.27mm, IPC High Density)
footprint PL84_M (Leaded Chip Carrier, 84-Leads, Body 29.3x29.3mm, Pitch 1.27mm, IPC Low Density)
3D model QL2003-QCC-J84 (84-Pin Plastic Leaded Chip Carrier 1.27 mm Pitch)
pins: 1 I/O (io), 2 I/O (io), 3 I/O (io), 4 VCC (power), 5 I/O (io), 6 I/O (io), 7 I/O (io), 8 I/O (io), 9 I/O (io), 10 I/O (io), 11 TDO (out), 12 I/O (io), 13 I/O (io), 14 I/O (io), 15 I/O (io), 16 I/O (io), 17 I/O (io), 18 I/O (io), 19 GND (power), 20 I/O (io), 21 I (in), 22 ACLK / I (in), 23 I (in), 24 GCLK / I (in), 25 VCC (power), 26 I/O (io), 27 I/O (io), 28 I/O (io), 29 I/O (io), 30 I/O (io), 31 I/O (io), 32 I/O (io), 33 TDI (in), 34 I/O (io), 35 I/O (io), 36 I/O (io), 37 I/O (io), 38 I/O (io), 39 I/O (io), 40 GND (power), 41 I/O (io), 42 I/O (io), 43 I/O (io), 44 I/O (io), 45 I/O (io), 46 VCC (power), 47 I/O (io), 48 I/O (io), 49 I/O (io), 50 I/O (io), 51 I/O (io), 52 TRSTB (in), 53 TMS (in), 54 I/O (io), 55 I/O (io), 56 I/O (io), 57 I/O (io), 58 I/O (io), 59 I/O (io), 60 I/O (io), 61 GND (power), 62 I/O (io), 63 I (in), 64 ACLK / I (in), 65 I (in), 66 GCLK / I (in), 67 VCC (power), 68 I/O (io), 69 I/O (io), 70 I/O (io), 71 I/O (io), 72 I/O (io), 73 I/O (io), 74 I/O (io), 75 TCK (in), 76 STM (in), 77 I/O (io), 78 I/O (io), 79 I/O (io), 80 I/O (io), 81 I/O (io), 82 GND (power), 83 I/O (io), 84 I/O (io)

## QL2003-2PF100C
designator U?
3.3V and 5.0V FPGA, 82 I/Os Max; Published: 21-May-2003; LatestRevisionDate: 13-Apr-2006; LatestRevisionNote: IPC-7351 Footprint Added.; DatasheetVersion: Rev. C; PackageVersion: Feb-2000; PackageReference: PF100; Publisher: Altium Limited; PackageDescription: 100-Pin Thin Quad Flat Pack 0.5 mm Pitch; Code_JEDEC: MO-136; ComponentLink1Description: Manufacturer Link; ComponentLink1URL: http://www.quicklogic.com/; ComponentLink2Description: Datasheet; ComponentLink2URL: http://www.quicklogic.com/images/QL2003_DS.pdf; ComponentLink3Description: Discontinuation Notice; ComponentLink3URL: http://www.quicklogic.com/images/EOL_Letter_General.pdf
footprint PF100_N (Thin QFP, 100-Leads, Body 14x14mm, Pitch 0.5mm, IPC Medium Density)
footprint PF100_L (Thin QFP, 100-Leads, Body 14x14mm, Pitch 0.5mm, IPC High Density)
footprint PF100_M (Thin QFP, 100-Leads, Body 14x14mm, Pitch 0.5mm, IPC Low Density)
3D model QL2003-PF100 (100-Pin Thin Quad Flat Pack 0.5 mm Pitch)
pins: 1 I/O (io), 2 I/O (io), 3 I/O (io), 4 I/O (io), 5 I/O (io), 6 I/O (io), 7 I/O (io), 8 I/O (io), 9 GND (power), 10 I/O (io), 11 I (in), 12 ACLK / I (in), 13 VCC (power), 14 I (in), 15 GCLK / I (in), 16 VCC (power), 17 I/O (io), 18 I/O (io), 19 I/O (io), 20 I/O (io), 21 I/O (io), 22 I/O (io), 23 I/O (io), 24 I/O (io), 25 I/O (io), 26 TDI (in), 27 I/O (io), 28 I/O (io), 29 I/O (io), 30 I/O (io), 31 I/O (io), 32 I/O (io), 33 I/O (io), 34 I/O (io), 35 GND (power), 36 I/O (io), 37 I/O (io), 38 GND (power), 39 I/O (io), 40 I/O (io), 41 I/O (io), 42 VCC (power), 43 I/O (io), 44 I/O (io), 45 I/O (io), 46 I/O (io), 47 I/O (io), 48 I/O (io), 49 TRSTB (in), 50 TMS (in), 51 I/O (io), 52 I/O (io), 53 I/O (io), 54 I/O (io), 55 I/O (io), 56 I/O (io), 57 I/O (io), 58 I/O (io), 59 GND (power), 60 I/O (io), 61 I (in), 62 ACLK / I (in), 63 VCC (power), 64 I (in), 65 GCLK / I (in), 66 VCC (power), 67 I/O (io), 68 I/O (io), 69 I/O (io), 70 I/O (io), 71 I/O (io), 72 I/O (io), 73 I/O (io), 74 I/O (io), 75 I/O (io), 76 TCK (in), 77 STM (in), 78 I/O (io), 79 I/O (io), 80 I/O (io), 81 I/O (io), 82 I/O (io), 83 I/O (io), 84 I/O (io), 85 GND (power), 86 I/O (io), 87 I/O (io), 88 GND (power), 89 I/O (io), 90 I/O (io), 91 I/O (io), 92 VCC (power), 93 I/O (io), 94 I/O (io), 95 I/O (io), 96 I/O (io), 97 I/O (io), 98 I/O (io), 99 I/O (io), 100 TDO (out)

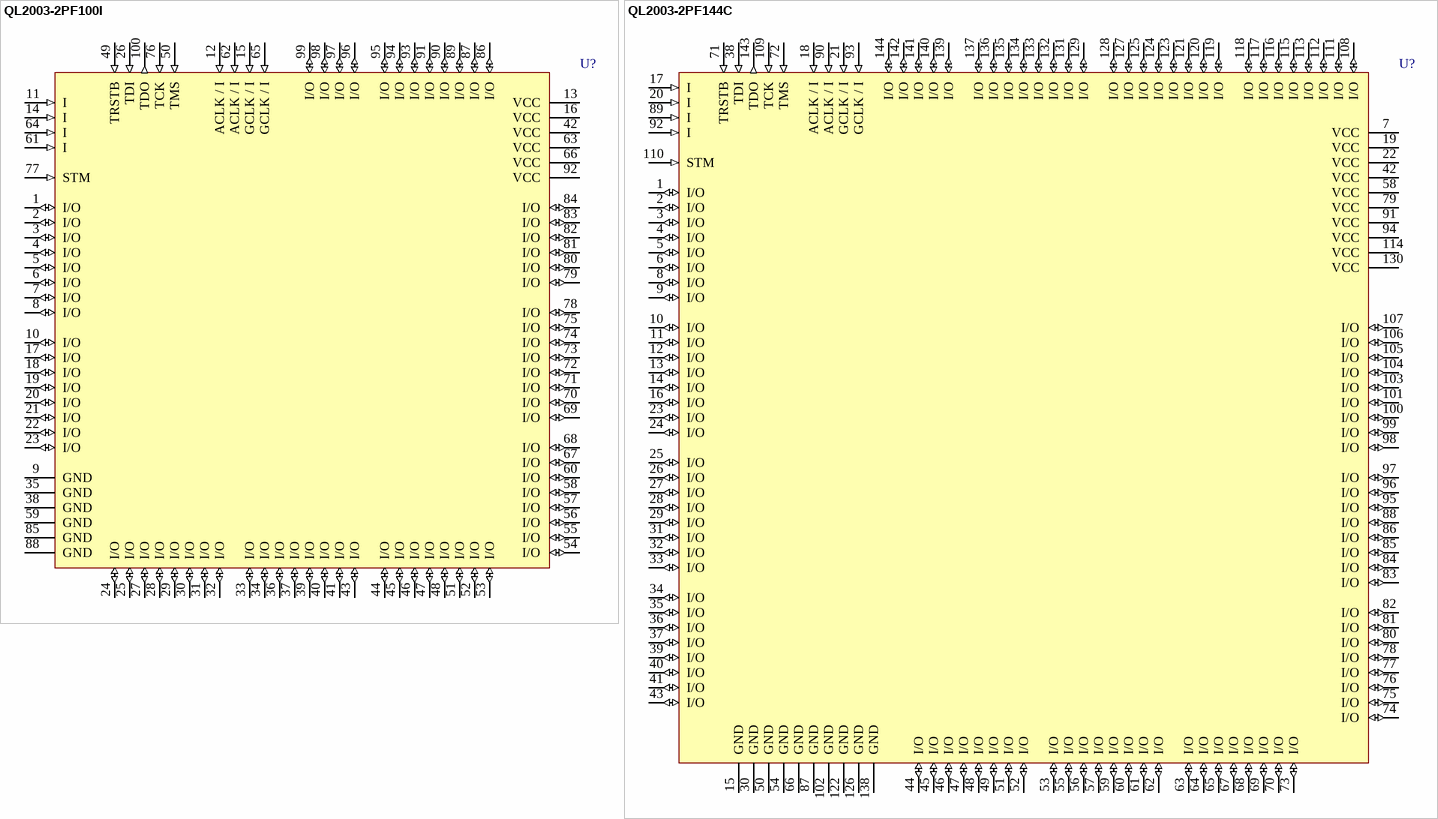
[diagram p4: symbols QL2003-2PF100I to QL2003-2PF144C]

## QL2003-2PF100I
designator U?
3.3V and 5.0V FPGA, 82 I/Os Max; Published: 21-May-2003; LatestRevisionDate: 13-Apr-2006; LatestRevisionNote: IPC-7351 Footprint Added.; DatasheetVersion: Rev. C; PackageVersion: Feb-2000; PackageReference: PF100; Publisher: Altium Limited; PackageDescription: 100-Pin Thin Quad Flat Pack 0.5 mm Pitch; Code_JEDEC: MO-136; ComponentLink1Description: Manufacturer Link; ComponentLink1URL: http://www.quicklogic.com/; ComponentLink2Description: Datasheet; ComponentLink2URL: http://www.quicklogic.com/images/QL2003_DS.pdf; ComponentLink3Description: Discontinuation Notice; ComponentLink3URL: http://www.quicklogic.com/images/EOL_Letter_General.pdf
footprint PF100_N (Thin QFP, 100-Leads, Body 14x14mm, Pitch 0.5mm, IPC Medium Density)
footprint PF100_L (Thin QFP, 100-Leads, Body 14x14mm, Pitch 0.5mm, IPC High Density)
footprint PF100_M (Thin QFP, 100-Leads, Body 14x14mm, Pitch 0.5mm, IPC Low Density)
3D model QL2003-PF100 (100-Pin Thin Quad Flat Pack 0.5 mm Pitch)
pins: 1 I/O (io), 2 I/O (io), 3 I/O (io), 4 I/O (io), 5 I/O (io), 6 I/O (io), 7 I/O (io), 8 I/O (io), 9 GND (power), 10 I/O (io), 11 I (in), 12 ACLK / I (in), 13 VCC (power), 14 I (in), 15 GCLK / I (in), 16 VCC (power), 17 I/O (io), 18 I/O (io), 19 I/O (io), 20 I/O (io), 21 I/O (io), 22 I/O (io), 23 I/O (io), 24 I/O (io), 25 I/O (io), 26 TDI (in), 27 I/O (io), 28 I/O (io), 29 I/O (io), 30 I/O (io), 31 I/O (io), 32 I/O (io), 33 I/O (io), 34 I/O (io), 35 GND (power), 36 I/O (io), 37 I/O (io), 38 GND (power), 39 I/O (io), 40 I/O (io), 41 I/O (io), 42 VCC (power), 43 I/O (io), 44 I/O (io), 45 I/O (io), 46 I/O (io), 47 I/O (io), 48 I/O (io), 49 TRSTB (in), 50 TMS (in), 51 I/O (io), 52 I/O (io), 53 I/O (io), 54 I/O (io), 55 I/O (io), 56 I/O (io), 57 I/O (io), 58 I/O (io), 59 GND (power), 60 I/O (io), 61 I (in), 62 ACLK / I (in), 63 VCC (power), 64 I (in), 65 GCLK / I (in), 66 VCC (power), 67 I/O (io), 68 I/O (io), 69 I/O (io), 70 I/O (io), 71 I/O (io), 72 I/O (io), 73 I/O (io), 74 I/O (io), 75 I/O (io), 76 TCK (in), 77 STM (in), 78 I/O (io), 79 I/O (io), 80 I/O (io), 81 I/O (io), 82 I/O (io), 83 I/O (io), 84 I/O (io), 85 GND (power), 86 I/O (io), 87 I/O (io), 88 GND (power), 89 I/O (io), 90 I/O (io), 91 I/O (io), 92 VCC (power), 93 I/O (io), 94 I/O (io), 95 I/O (io), 96 I/O (io), 97 I/O (io), 98 I/O (io), 99 I/O (io), 100 TDO (out)

## QL2003-2PF144C
designator U?
3.3V and 5.0V FPGA, 118 I/Os Max; Published: 21-May-2003; LatestRevisionDate: 13-Apr-2006; LatestRevisionNote: IPC-7351 Footprint Added.; DatasheetVersion: Rev. C; PackageVersion: Feb-1992; PackageReference: PF144; Publisher: Altium Limited; PackageDescription: 144-Pin Thin Plastic Quad Flat Pack 0.5 mm Pitch; ComponentLink1Description: Manufacturer Link; ComponentLink1URL: http://www.quicklogic.com/; ComponentLink2Description: Datasheet; ComponentLink2URL: http://www.quicklogic.com/images/QL2003_DS.pdf; ComponentLink3Description: Discontinuation Notice; ComponentLink3URL: http://www.quicklogic.com/images/EOL_Letter_General.pdf
footprint PF144_N (Thin QFP, 144-Leads, Body 20x20mm, Pitch 0.5mm, IPC Medium Density)
footprint PF144_L (Thin QFP, 144-Leads, Body 20x20mm, Pitch 0.5mm, IPC High Density)
footprint PF144_M (Thin QFP, 144-Leads, Body 20x20mm, Pitch 0.5mm, IPC Low Density)
3D model QL2003-PF144 (144-Pin Thin Plastic Quad Flat Pack 0.5 mm Pitch)
pins: 1 I/O (io), 2 I/O (io), 3 I/O (io), 4 I/O (io), 5 I/O (io), 6 I/O (io), 7 VCC (power), 8 I/O (io), 9 I/O (io), 10 I/O (io), 11 I/O (io), 12 I/O (io), 13 I/O (io), 14 I/O (io), 15 GND (power), 16 I/O (io), 17 I (in), 18 ACLK / I (in), 19 VCC (power), 20 I (in), 21 GCLK / I (in), 22 VCC (power), 23 I/O (io), 24 I/O (io), 25 I/O (io), 26 I/O (io), 27 I/O (io), 28 I/O (io), 29 I/O (io), 30 GND (power), 31 I/O (io), 32 I/O (io), 33 I/O (io), 34 I/O (io), 35 I/O (io), 36 I/O (io), 37 I/O (io), 38 TDI (in), 39 I/O (io), 40 I/O (io), 41 I/O (io), 42 VCC (power), 43 I/O (io), 44 I/O (io), 45 I/O (io), 46 I/O (io), 47 I/O (io), 48 I/O (io), 49 I/O (io), 50 GND (power), 51 I/O (io), 52 I/O (io), 53 I/O (io), 54 GND (power), 55 I/O (io), 56 I/O (io), 57 I/O (io), 58 VCC (power), 59 I/O (io), 60 I/O (io), 61 I/O (io), 62 I/O (io), 63 I/O (io), 64 I/O (io), 65 I/O (io), 66 GND (power), 67 I/O (io), 68 I/O (io), 69 I/O (io), 70 I/O (io), 71 TRSTB (in), 72 TMS (in), 73 I/O (io), 74 I/O (io), 75 I/O (io), 76 I/O (io), 77 I/O (io), 78 I/O (io), 79 VCC (power), 80 I/O (io), 81 I/O (io), 82 I/O (io), 83 I/O (io), 84 I/O (io), 85 I/O (io), 86 I/O (io), 87 GND (power), 88 I/O (io), 89 I (in), 90 ACLK / I (in), 91 VCC (power), 92 I (in), 93 GCLK / I (in), 94 VCC (power), 95 I/O (io), 96 I/O (io), 97 I/O (io), 98 I/O (io), 99 I/O (io), 100 I/O (io), 101 I/O (io), 102 GND (power), 103 I/O (io), 104 I/O (io), 105 I/O (io), 106 I/O (io), 107 I/O (io), 108 I/O (io), 109 TCK (in), 110 STM (in), 111 I/O (io), 112 I/O (io), 113 I/O (io), 114 VCC (power), 115 I/O (io), 116 I/O (io), 117 I/O (io), 118 I/O (io), 119 I/O (io), 120 I/O (io), 121 I/O (io), 122 GND (power), 123 I/O (io), 124 I/O (io), 125 I/O (io), 126 GND (power), 127 I/O (io), 128 I/O (io), 129 I/O (io), 130 VCC (power), 131 I/O (io), 132 I/O (io), 133 I/O (io), 134 I/O (io), 135 I/O (io), 136 I/O (io), 137 I/O (io), 138 GND (power), 139 I/O (io), 140 I/O (io), 141 I/O (io), 142 I/O (io), 143 TDO (out), 144 I/O (io)

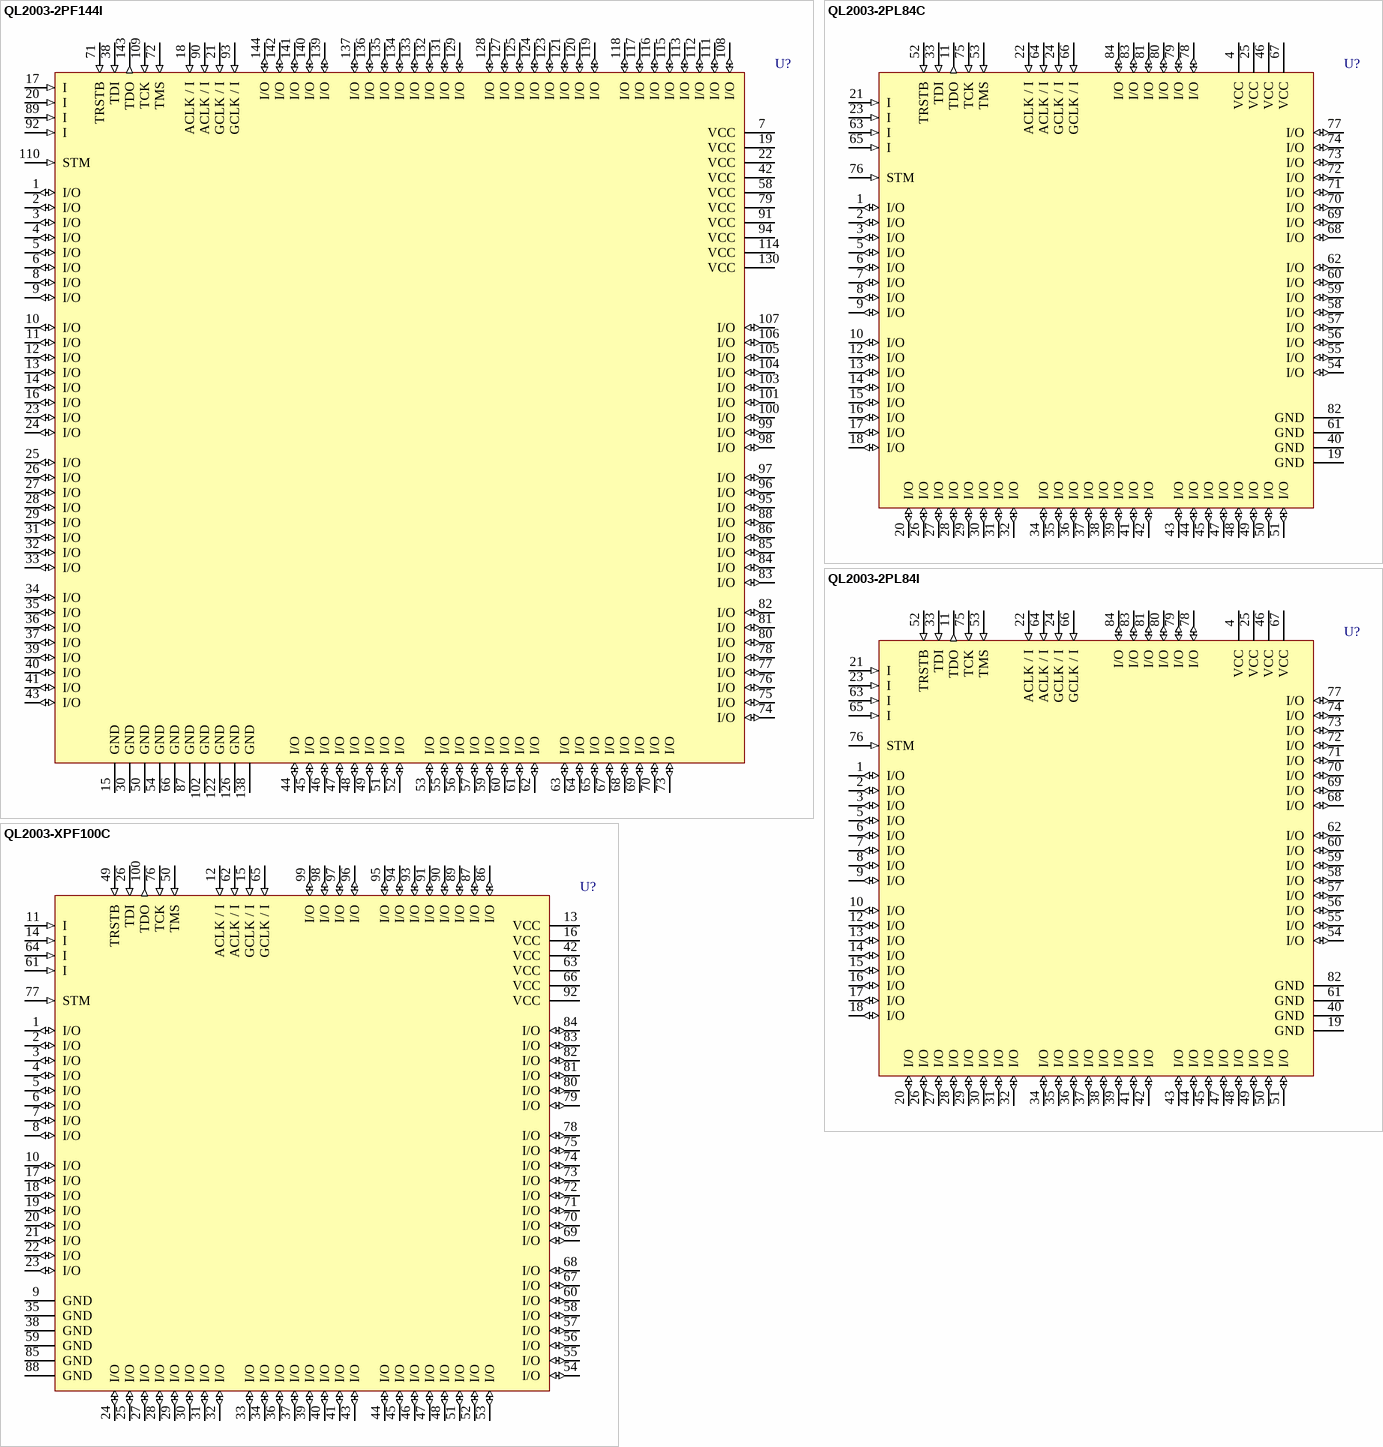
[diagram p5: symbols QL2003-2PF144I to QL2003-XPF100C]

## QL2003-2PF144I
designator U?
3.3V and 5.0V FPGA, 118 I/Os Max; Published: 21-May-2003; LatestRevisionDate: 13-Apr-2006; LatestRevisionNote: IPC-7351 Footprint Added.; DatasheetVersion: Rev. C; PackageVersion: Feb-1992; PackageReference: PF144; Publisher: Altium Limited; PackageDescription: 144-Pin Thin Plastic Quad Flat Pack 0.5 mm Pitch; ComponentLink1Description: Manufacturer Link; ComponentLink1URL: http://www.quicklogic.com/; ComponentLink2Description: Datasheet; ComponentLink2URL: http://www.quicklogic.com/images/QL2003_DS.pdf; ComponentLink3Description: Discontinuation Notice; ComponentLink3URL: http://www.quicklogic.com/images/EOL_Letter_General.pdf
footprint PF144_N (Thin QFP, 144-Leads, Body 20x20mm, Pitch 0.5mm, IPC Medium Density)
footprint PF144_L (Thin QFP, 144-Leads, Body 20x20mm, Pitch 0.5mm, IPC High Density)
footprint PF144_M (Thin QFP, 144-Leads, Body 20x20mm, Pitch 0.5mm, IPC Low Density)
3D model QL2003-PF144 (144-Pin Thin Plastic Quad Flat Pack 0.5 mm Pitch)
pins: 1 I/O (io), 2 I/O (io), 3 I/O (io), 4 I/O (io), 5 I/O (io), 6 I/O (io), 7 VCC (power), 8 I/O (io), 9 I/O (io), 10 I/O (io), 11 I/O (io), 12 I/O (io), 13 I/O (io), 14 I/O (io), 15 GND (power), 16 I/O (io), 17 I (in), 18 ACLK / I (in), 19 VCC (power), 20 I (in), 21 GCLK / I (in), 22 VCC (power), 23 I/O (io), 24 I/O (io), 25 I/O (io), 26 I/O (io), 27 I/O (io), 28 I/O (io), 29 I/O (io), 30 GND (power), 31 I/O (io), 32 I/O (io), 33 I/O (io), 34 I/O (io), 35 I/O (io), 36 I/O (io), 37 I/O (io), 38 TDI (in), 39 I/O (io), 40 I/O (io), 41 I/O (io), 42 VCC (power), 43 I/O (io), 44 I/O (io), 45 I/O (io), 46 I/O (io), 47 I/O (io), 48 I/O (io), 49 I/O (io), 50 GND (power), 51 I/O (io), 52 I/O (io), 53 I/O (io), 54 GND (power), 55 I/O (io), 56 I/O (io), 57 I/O (io), 58 VCC (power), 59 I/O (io), 60 I/O (io), 61 I/O (io), 62 I/O (io), 63 I/O (io), 64 I/O (io), 65 I/O (io), 66 GND (power), 67 I/O (io), 68 I/O (io), 69 I/O (io), 70 I/O (io), 71 TRSTB (in), 72 TMS (in), 73 I/O (io), 74 I/O (io), 75 I/O (io), 76 I/O (io), 77 I/O (io), 78 I/O (io), 79 VCC (power), 80 I/O (io), 81 I/O (io), 82 I/O (io), 83 I/O (io), 84 I/O (io), 85 I/O (io), 86 I/O (io), 87 GND (power), 88 I/O (io), 89 I (in), 90 ACLK / I (in), 91 VCC (power), 92 I (in), 93 GCLK / I (in), 94 VCC (power), 95 I/O (io), 96 I/O (io), 97 I/O (io), 98 I/O (io), 99 I/O (io), 100 I/O (io), 101 I/O (io), 102 GND (power), 103 I/O (io), 104 I/O (io), 105 I/O (io), 106 I/O (io), 107 I/O (io), 108 I/O (io), 109 TCK (in), 110 STM (in), 111 I/O (io), 112 I/O (io), 113 I/O (io), 114 VCC (power), 115 I/O (io), 116 I/O (io), 117 I/O (io), 118 I/O (io), 119 I/O (io), 120 I/O (io), 121 I/O (io), 122 GND (power), 123 I/O (io), 124 I/O (io), 125 I/O (io), 126 GND (power), 127 I/O (io), 128 I/O (io), 129 I/O (io), 130 VCC (power), 131 I/O (io), 132 I/O (io), 133 I/O (io), 134 I/O (io), 135 I/O (io), 136 I/O (io), 137 I/O (io), 138 GND (power), 139 I/O (io), 140 I/O (io), 141 I/O (io), 142 I/O (io), 143 TDO (out), 144 I/O (io)

## QL2003-2PL84C
designator U?
3.3V and 5.0V FPGA, 70 I/Os Max; Published: 21-May-2003; LatestRevisionDate: 13-Apr-2006; LatestRevisionNote: IPC-7351 Footprint Added.; DatasheetVersion: Rev. C; PackageVersion: Feb-1996; PackageReference: PL84; Publisher: Altium Limited; PackageDescription: 84-Pin Plastic Leaded Chip Carrier 1.27 mm Pitch; Code_IPC: PLCC-84; ComponentLink1Description: Manufacturer Link; ComponentLink1URL: http://www.quicklogic.com/; ComponentLink2Description: Datasheet; ComponentLink2URL: http://www.quicklogic.com/images/QL2003_DS.pdf; ComponentLink3Description: Discontinuation Notice; ComponentLink3URL: http://www.quicklogic.com/images/EOL_Letter_General.pdf
footprint PL84_N (Leaded Chip Carrier, 84-Leads, Body 29.3x29.3mm, Pitch 1.27mm, IPC Medium Density)
footprint PL84_L (Leaded Chip Carrier, 84-Leads, Body 29.3x29.3mm, Pitch 1.27mm, IPC High Density)
footprint PL84_M (Leaded Chip Carrier, 84-Leads, Body 29.3x29.3mm, Pitch 1.27mm, IPC Low Density)
3D model QL2003-QCC-J84 (84-Pin Plastic Leaded Chip Carrier 1.27 mm Pitch)
pins: 1 I/O (io), 2 I/O (io), 3 I/O (io), 4 VCC (power), 5 I/O (io), 6 I/O (io), 7 I/O (io), 8 I/O (io), 9 I/O (io), 10 I/O (io), 11 TDO (out), 12 I/O (io), 13 I/O (io), 14 I/O (io), 15 I/O (io), 16 I/O (io), 17 I/O (io), 18 I/O (io), 19 GND (power), 20 I/O (io), 21 I (in), 22 ACLK / I (in), 23 I (in), 24 GCLK / I (in), 25 VCC (power), 26 I/O (io), 27 I/O (io), 28 I/O (io), 29 I/O (io), 30 I/O (io), 31 I/O (io), 32 I/O (io), 33 TDI (in), 34 I/O (io), 35 I/O (io), 36 I/O (io), 37 I/O (io), 38 I/O (io), 39 I/O (io), 40 GND (power), 41 I/O (io), 42 I/O (io), 43 I/O (io), 44 I/O (io), 45 I/O (io), 46 VCC (power), 47 I/O (io), 48 I/O (io), 49 I/O (io), 50 I/O (io), 51 I/O (io), 52 TRSTB (in), 53 TMS (in), 54 I/O (io), 55 I/O (io), 56 I/O (io), 57 I/O (io), 58 I/O (io), 59 I/O (io), 60 I/O (io), 61 GND (power), 62 I/O (io), 63 I (in), 64 ACLK / I (in), 65 I (in), 66 GCLK / I (in), 67 VCC (power), 68 I/O (io), 69 I/O (io), 70 I/O (io), 71 I/O (io), 72 I/O (io), 73 I/O (io), 74 I/O (io), 75 TCK (in), 76 STM (in), 77 I/O (io), 78 I/O (io), 79 I/O (io), 80 I/O (io), 81 I/O (io), 82 GND (power), 83 I/O (io), 84 I/O (io)

## QL2003-2PL84I
designator U?
3.3V and 5.0V FPGA, 70 I/Os Max; Published: 21-May-2003; LatestRevisionDate: 13-Apr-2006; LatestRevisionNote: IPC-7351 Footprint Added.; DatasheetVersion: Rev. C; PackageVersion: Feb-1996; PackageReference: PL84; Publisher: Altium Limited; PackageDescription: 84-Pin Plastic Leaded Chip Carrier 1.27 mm Pitch; Code_IPC: PLCC-84; ComponentLink1Description: Manufacturer Link; ComponentLink1URL: http://www.quicklogic.com/; ComponentLink2Description: Datasheet; ComponentLink2URL: http://www.quicklogic.com/images/QL2003_DS.pdf; ComponentLink3Description: Discontinuation Notice; ComponentLink3URL: http://www.quicklogic.com/images/EOL_Letter_General.pdf
footprint PL84_N (Leaded Chip Carrier, 84-Leads, Body 29.3x29.3mm, Pitch 1.27mm, IPC Medium Density)
footprint PL84_L (Leaded Chip Carrier, 84-Leads, Body 29.3x29.3mm, Pitch 1.27mm, IPC High Density)
footprint PL84_M (Leaded Chip Carrier, 84-Leads, Body 29.3x29.3mm, Pitch 1.27mm, IPC Low Density)
3D model QL2003-QCC-J84 (84-Pin Plastic Leaded Chip Carrier 1.27 mm Pitch)
pins: 1 I/O (io), 2 I/O (io), 3 I/O (io), 4 VCC (power), 5 I/O (io), 6 I/O (io), 7 I/O (io), 8 I/O (io), 9 I/O (io), 10 I/O (io), 11 TDO (out), 12 I/O (io), 13 I/O (io), 14 I/O (io), 15 I/O (io), 16 I/O (io), 17 I/O (io), 18 I/O (io), 19 GND (power), 20 I/O (io), 21 I (in), 22 ACLK / I (in), 23 I (in), 24 GCLK / I (in), 25 VCC (power), 26 I/O (io), 27 I/O (io), 28 I/O (io), 29 I/O (io), 30 I/O (io), 31 I/O (io), 32 I/O (io), 33 TDI (in), 34 I/O (io), 35 I/O (io), 36 I/O (io), 37 I/O (io), 38 I/O (io), 39 I/O (io), 40 GND (power), 41 I/O (io), 42 I/O (io), 43 I/O (io), 44 I/O (io), 45 I/O (io), 46 VCC (power), 47 I/O (io), 48 I/O (io), 49 I/O (io), 50 I/O (io), 51 I/O (io), 52 TRSTB (in), 53 TMS (in), 54 I/O (io), 55 I/O (io), 56 I/O (io), 57 I/O (io), 58 I/O (io), 59 I/O (io), 60 I/O (io), 61 GND (power), 62 I/O (io), 63 I (in), 64 ACLK / I (in), 65 I (in), 66 GCLK / I (in), 67 VCC (power), 68 I/O (io), 69 I/O (io), 70 I/O (io), 71 I/O (io), 72 I/O (io), 73 I/O (io), 74 I/O (io), 75 TCK (in), 76 STM (in), 77 I/O (io), 78 I/O (io), 79 I/O (io), 80 I/O (io), 81 I/O (io), 82 GND (power), 83 I/O (io), 84 I/O (io)

## QL2003-XPF100C
designator U?
3.3V and 5.0V FPGA, 82 I/Os Max; Published: 21-May-2003; LatestRevisionDate: 13-Apr-2006; LatestRevisionNote: IPC-7351 Footprint Added.; DatasheetVersion: Rev. C; PackageVersion: Feb-2000; PackageReference: PF100; Publisher: Altium Limited; PackageDescription: 100-Pin Thin Quad Flat Pack 0.5 mm Pitch; Code_JEDEC: MO-136; ComponentLink1Description: Manufacturer Link; ComponentLink1URL: http://www.quicklogic.com/; ComponentLink2Description: Datasheet; ComponentLink2URL: http://www.quicklogic.com/images/QL2003_DS.pdf; ComponentLink3Description: Discontinuation Notice; ComponentLink3URL: http://www.quicklogic.com/images/EOL_Letter_General.pdf
footprint PF100_N (Thin QFP, 100-Leads, Body 14x14mm, Pitch 0.5mm, IPC Medium Density)
footprint PF100_L (Thin QFP, 100-Leads, Body 14x14mm, Pitch 0.5mm, IPC High Density)
footprint PF100_M (Thin QFP, 100-Leads, Body 14x14mm, Pitch 0.5mm, IPC Low Density)
3D model QL2003-PF100 (100-Pin Thin Quad Flat Pack 0.5 mm Pitch)
pins: 1 I/O (io), 2 I/O (io), 3 I/O (io), 4 I/O (io), 5 I/O (io), 6 I/O (io), 7 I/O (io), 8 I/O (io), 9 GND (power), 10 I/O (io), 11 I (in), 12 ACLK / I (in), 13 VCC (power), 14 I (in), 15 GCLK / I (in), 16 VCC (power), 17 I/O (io), 18 I/O (io), 19 I/O (io), 20 I/O (io), 21 I/O (io), 22 I/O (io), 23 I/O (io), 24 I/O (io), 25 I/O (io), 26 TDI (in), 27 I/O (io), 28 I/O (io), 29 I/O (io), 30 I/O (io), 31 I/O (io), 32 I/O (io), 33 I/O (io), 34 I/O (io), 35 GND (power), 36 I/O (io), 37 I/O (io), 38 GND (power), 39 I/O (io), 40 I/O (io), 41 I/O (io), 42 VCC (power), 43 I/O (io), 44 I/O (io), 45 I/O (io), 46 I/O (io), 47 I/O (io), 48 I/O (io), 49 TRSTB (in), 50 TMS (in), 51 I/O (io), 52 I/O (io), 53 I/O (io), 54 I/O (io), 55 I/O (io), 56 I/O (io), 57 I/O (io), 58 I/O (io), 59 GND (power), 60 I/O (io), 61 I (in), 62 ACLK / I (in), 63 VCC (power), 64 I (in), 65 GCLK / I (in), 66 VCC (power), 67 I/O (io), 68 I/O (io), 69 I/O (io), 70 I/O (io), 71 I/O (io), 72 I/O (io), 73 I/O (io), 74 I/O (io), 75 I/O (io), 76 TCK (in), 77 STM (in), 78 I/O (io), 79 I/O (io), 80 I/O (io), 81 I/O (io), 82 I/O (io), 83 I/O (io), 84 I/O (io), 85 GND (power), 86 I/O (io), 87 I/O (io), 88 GND (power), 89 I/O (io), 90 I/O (io), 91 I/O (io), 92 VCC (power), 93 I/O (io), 94 I/O (io), 95 I/O (io), 96 I/O (io), 97 I/O (io), 98 I/O (io), 99 I/O (io), 100 TDO (out)

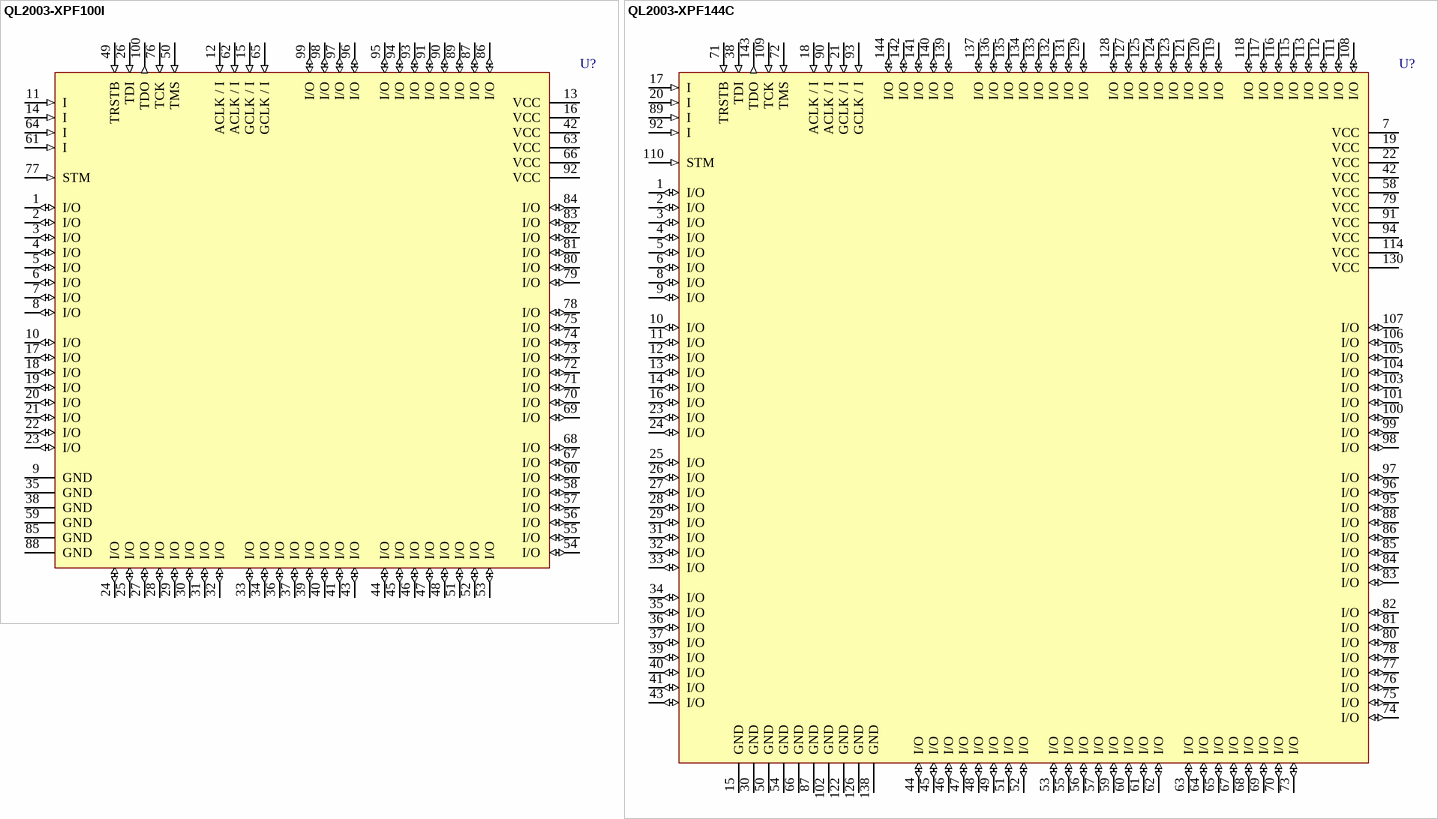
[diagram p6: symbols QL2003-XPF100I to QL2003-XPF144C]